# Altium integrated library NXP_60_26022015.IntLib: 1306 symbols (part 15 of 28)
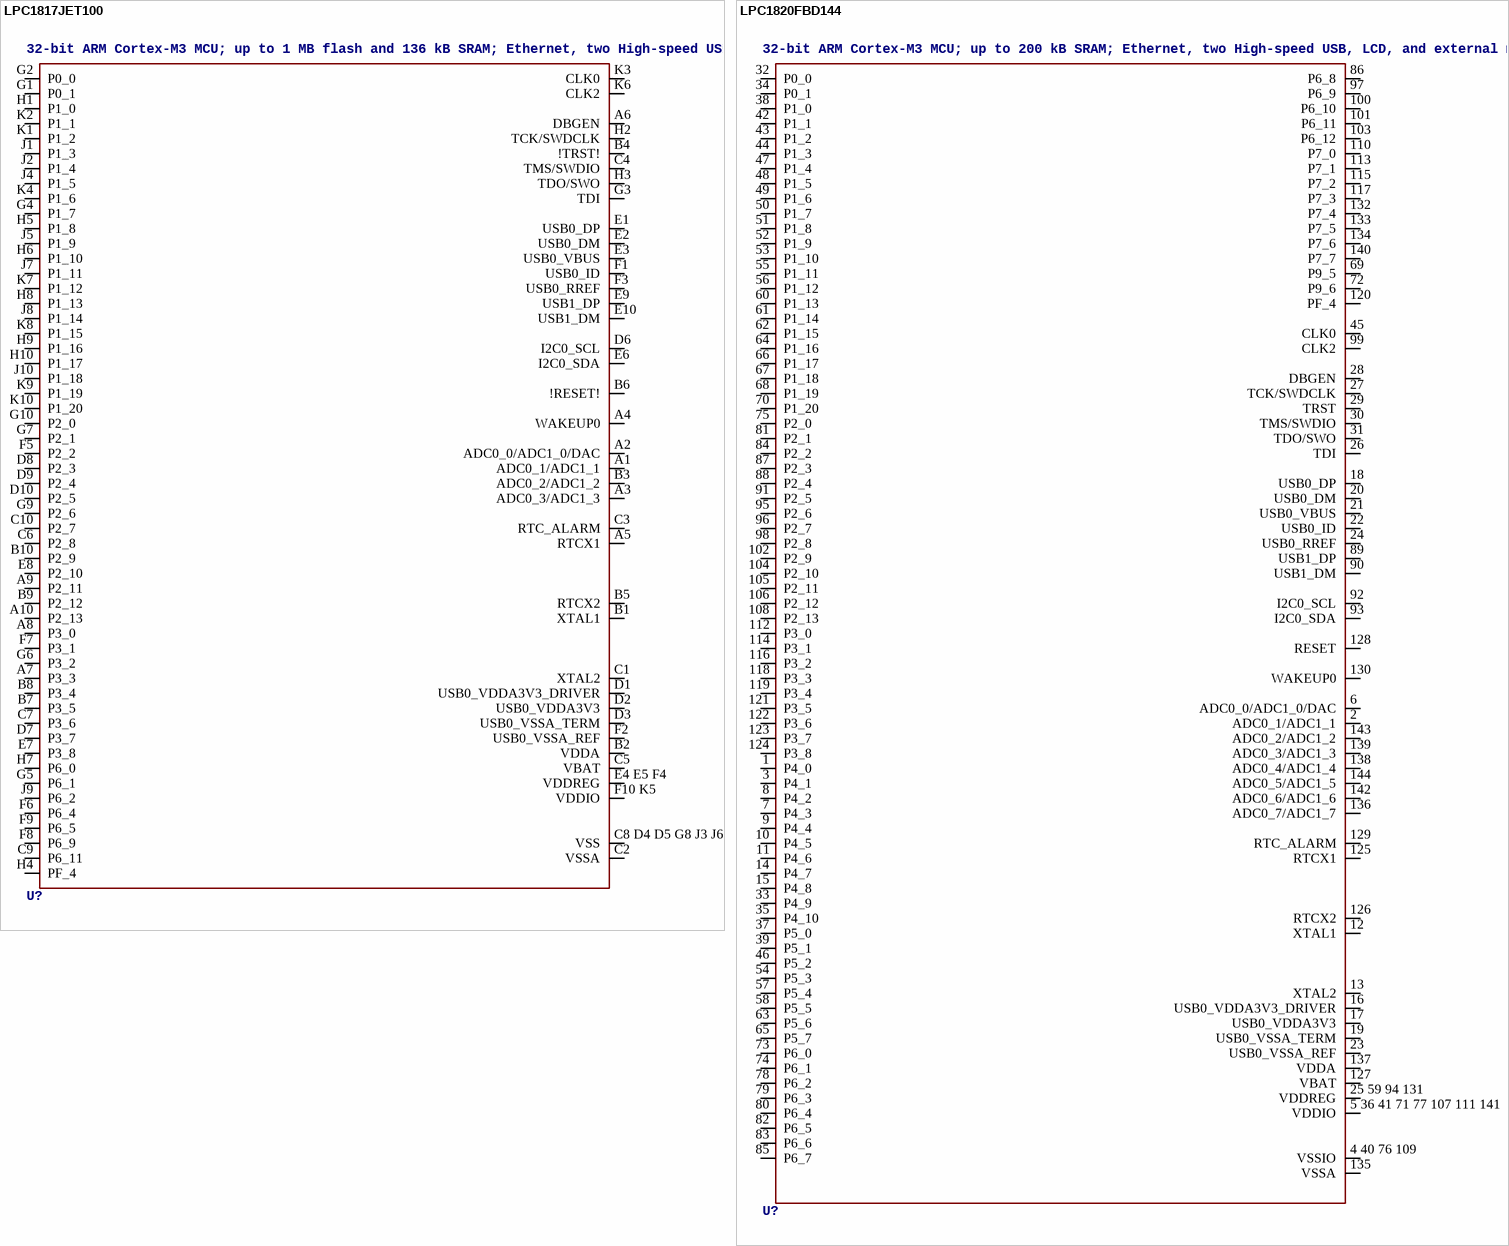
[diagram p199: symbols LPC1817JET100 to LPC1820FBD144]

## LPC1817JET100
designator U?, comment 32-bit ARM Cortex-M3 MCU; up to 1 MB flash and 136 kB SRAM; Ethernet, two High-speed USB, LCD, EMC The LPC185x/3x/2x/1x are ARM Cortex-M3 based microcontrollers for embedded applications. The ARM Cortex-M3 is a next generation core that offers system enhancements such as low power consumption, enhanced debug features, and a high level of support block integration. The LPC185x/3x/2x/1x operate at CPU frequencies of up to 180 MHz. The ARM Cortex-M3 CPU incorporates a 3-stage pipeline and uses a Harvard architecture with separate local instruction and data buses as well as a third bus for peripherals. The ARM Cortex-M3 CPU also includes an internal prefetch unit that supports speculative branching. The LPC185x/3x/2x/1x include up to 1 MB of flash and 136 kB of on-chip SRAM, 16 kB of EEPROM memory, a quad SPI Flash Interface (SPIFI), a State Configurable Timer (SCT) subsystem, two High-speed USB controllers, Ethernet, LCD, an external memory controller, and multiple digital and analog peripherals.    AAL Eindhoven MK
ADC: 4; ETHERNET: yes; FLASH: 1MB; GPIO: 49; LCD: no; SRAM: 136kB; TEMPERATURE_RANGE: -40 °C to +105 °C; PWM: no; QEI: no; USB0: No; USB1: No
footprint SOT926-1
pins: A1 ADC0_1/ADC1_1, A2 ADC0_0/ADC1_0/DAC, A3 ADC0_3/ADC1_3, A4 WAKEUP0, A5 RTCX1, A6 DBGEN, A7 P3_3, A8 P3_0, A9 P2_11, A10 P2_13, B1 XTAL1, B2 VDDA, B3 ADC0_2/ADC1_2, B4 !TRST!, B5 RTCX2, B6 !RESET!, B7 P3_5, B8 P3_4, B9 P2_12, B10 P2_9, C1 XTAL2, C2 VSSA, C3 RTC_ALARM, C4 TMS/SWDIO, C5 VBAT, C6 P2_8, C7 P3_6, C8 D4 D5 G8 J3 J6 VSS, C9 P6_11, C10 P2_7, D1 USB0_VDDA3V3_DRIVER, D2 USB0_VDDA3V3, D3 USB0_VSSA_TERM, D6 I2C0_SCL, D7 P3_7, D8 P2_3, D9 P2_4, D10 P2_5, E1 USB0_DP, E2 USB0_DM, E3 USB0_VBUS, E4 E5 F4 VDDREG, E6 I2C0_SDA, E7 P3_8, E8 P2_10, E9 USB1_DP, E10 USB1_DM, F1 USB0_ID, F2 USB0_VSSA_REF, F3 USB0_RREF, F5 P2_2, F6 P6_4, F7 P3_1, F8 P6_9, F9 P6_5, F10 K5 VDDIO, G1 P0_1, G2 P0_0, G3 TDI, G4 P1_7, G5 P6_1, G6 P3_2, G7 P2_1, G9 P2_6, G10 P2_0, H1 P1_0, H2 TCK/SWDCLK, H3 TDO/SWO, H4 PF_4, H5 P1_8, H6 P1_10, H7 P6_0, H8 P1_13, H9 P1_16, H10 P1_17, J1 P1_3, J2 P1_4, J4 P1_5, J5 P1_9, J7 P1_11, J8 P1_14, J9 P6_2, J10 P1_18, K1 P1_2, K2 P1_1, K3 CLK0, K4 P1_6, K6 CLK2, K7 P1_12, K8 P1_15, K9 P1_19, K10 P1_20

## LPC1820FBD144
designator U?, comment 32-bit ARM Cortex-M3 MCU; up to 200 kB SRAM; Ethernet, two High-speed USB, LCD, and external memory controller The LPC1850/30/20/10 are ARM Cortex-M3 based microcontrollers for embedded applications. The ARM Cortex-M3 is a next generation core that offers system enhancements such as low power consumption, enhanced debug features, and a high level of support block integration. The LPC1850/30/20/10 operate at CPU frequencies of up to 180 MHz. The ARM Cortex-M3 CPU incorporates a 3-stage pipeline and uses a Harvard architecture with separate local instruction and data buses as well as a third bus for peripherals. The ARM Cortex-M3 CPU also includes an internal prefetch unit that supports speculative branching. The LPC1850/30/20/10 include up to 200 kB of on-chip SRAM, a quad SPI Flash Interface (SPIFI), a State Configurable Timer (SCT) subsystem, two High-speed USB controllers, Ethernet, LCD, an external memory controller, and multiple digital and analog peripherals.    AAL Eindhoven MK
ADC: 8; ETHERNET: no; GPIO: 83; PWM: yes; SRAM: 168kB; USB0: Host/OTG; LCD: no; QEI: no; USB1: No
footprint SOT486-1
pins: 1 P4_0, 2 ADC0_1/ADC1_1, 3 P4_1, 4 40 76 109 VSSIO, 5 36 41 71 77 107 111 141 VDDIO, 6 ADC0_0/ADC1_0/DAC, 7 P4_3, 8 P4_2, 9 P4_4, 10 P4_5, 11 P4_6, 12 XTAL1, 13 XTAL2, 14 P4_7, 15 P4_8, 16 USB0_VDDA3V3_DRIVER, 17 USB0_VDDA3V3, 18 USB0_DP, 19 USB0_VSSA_TERM, 20 USB0_DM, 21 USB0_VBUS, 22 USB0_ID, 23 USB0_VSSA_REF, 24 USB0_RREF, 25 59 94 131 VDDREG, 26 TDI, 27 TCK/SWDCLK, 28 DBGEN, 29 TRST, 30 TMS/SWDIO, 31 TDO/SWO, 32 P0_0, 33 P4_9, 34 P0_1, 35 P4_10, 37 P5_0, 38 P1_0, 39 P5_1, 42 P1_1, 43 P1_2, 44 P1_3, 45 CLK0, 46 P5_2, 47 P1_4, 48 P1_5, 49 P1_6, 50 P1_7, 51 P1_8, 52 P1_9, 53 P1_10, 54 P5_3, 55 P1_11, 56 P1_12, 57 P5_4, 58 P5_5, 60 P1_13, 61 P1_14, 62 P1_15, 63 P5_6, 64 P1_16, 65 P5_7, 66 P1_17, 67 P1_18, 68 P1_19, 69 P9_5, 70 P1_20, 72 P9_6, 73 P6_0, 74 P6_1, 75 P2_0, 78 P6_2, 79 P6_3, 80 P6_4, 81 P2_1, 82 P6_5, 83 P6_6, 84 P2_2, 85 P6_7, 86 P6_8, 87 P2_3, 88 P2_4, 89 USB1_DP, 90 USB1_DM, 91 P2_5, 92 I2C0_SCL, 93 I2C0_SDA, 95 P2_6, 96 P2_7, 97 P6_9, 98 P2_8, 99 CLK2, 100 P6_10, 101 P6_11, 102 P2_9, 103 P6_12, 104 P2_10, 105 P2_11, 106 P2_12, 108 P2_13, 110 P7_0, 112 P3_0, 113 P7_1, 114 P3_1, 115 P7_2, 116 P3_2, 117 P7_3, 118 P3_3, 119 P3_4, 120 PF_4, 121 P3_5, 122 P3_6, 123 P3_7, 124 P3_8, 125 RTCX1, 126 RTCX2, 127 VBAT, 128 RESET, 129 RTC_ALARM, 130 WAKEUP0, 132 P7_4, 133 P7_5, 134 P7_6, 135 VSSA, 136 ADC0_7/ADC1_7, 137 VDDA, 138 ADC0_4/ADC1_4, 139 ADC0_3/ADC1_3, 140 P7_7, 142 ADC0_6/ADC1_6, 143 ADC0_2/ADC1_2, 144 ADC0_5/ADC1_5

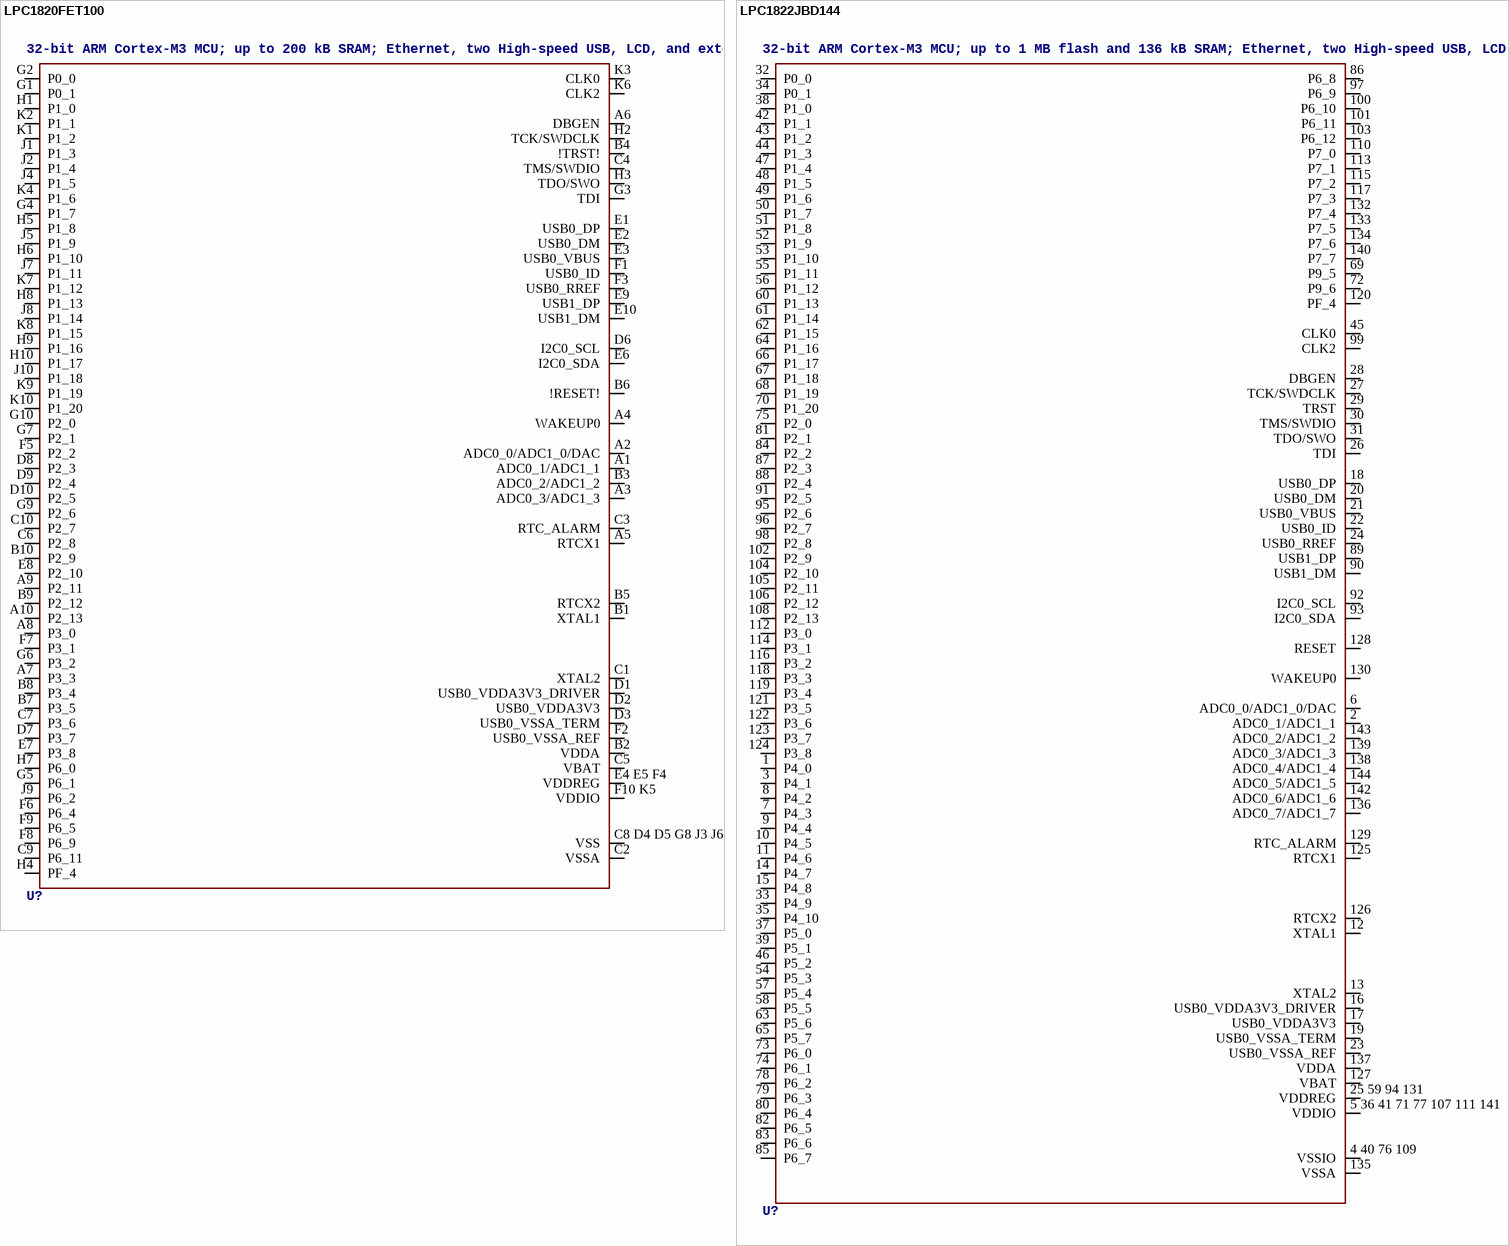
[diagram p91: symbols LPC1820FET100 to LPC1822JBD144]

## LPC1820FET100
designator U?, comment 32-bit ARM Cortex-M3 MCU; up to 200 kB SRAM; Ethernet, two High-speed USB, LCD, and external memory controller The LPC1850/30/20/10 are ARM Cortex-M3 based microcontrollers for embedded applications. The ARM Cortex-M3 is a next generation core that offers system enhancements such as low power consumption, enhanced debug features, and a high level of support block integration. The LPC1850/30/20/10 operate at CPU frequencies of up to 180 MHz. The ARM Cortex-M3 CPU incorporates a 3-stage pipeline and uses a Harvard architecture with separate local instruction and data buses as well as a third bus for peripherals. The ARM Cortex-M3 CPU also includes an internal prefetch unit that supports speculative branching. The LPC1850/30/20/10 include up to 200 kB of on-chip SRAM, a quad SPI Flash Interface (SPIFI), a State Configurable Timer (SCT) subsystem, two High-speed USB controllers, Ethernet, LCD, an external memory controller, and multiple digital and analog peripherals.    AAL Eindhoven MK
ADC: 4; ETHERNET: no; GPIO: 49; SRAM: 168kB; USB0: Host/OTG; LCD: no; PWM: no; QEI: no; USB1: No
footprint SOT926-1
pins: A1 ADC0_1/ADC1_1, A2 ADC0_0/ADC1_0/DAC, A3 ADC0_3/ADC1_3, A4 WAKEUP0, A5 RTCX1, A6 DBGEN, A7 P3_3, A8 P3_0, A9 P2_11, A10 P2_13, B1 XTAL1, B2 VDDA, B3 ADC0_2/ADC1_2, B4 !TRST!, B5 RTCX2, B6 !RESET!, B7 P3_5, B8 P3_4, B9 P2_12, B10 P2_9, C1 XTAL2, C2 VSSA, C3 RTC_ALARM, C4 TMS/SWDIO, C5 VBAT, C6 P2_8, C7 P3_6, C8 D4 D5 G8 J3 J6 VSS, C9 P6_11, C10 P2_7, D1 USB0_VDDA3V3_DRIVER, D2 USB0_VDDA3V3, D3 USB0_VSSA_TERM, D6 I2C0_SCL, D7 P3_7, D8 P2_3, D9 P2_4, D10 P2_5, E1 USB0_DP, E2 USB0_DM, E3 USB0_VBUS, E4 E5 F4 VDDREG, E6 I2C0_SDA, E7 P3_8, E8 P2_10, E9 USB1_DP, E10 USB1_DM, F1 USB0_ID, F2 USB0_VSSA_REF, F3 USB0_RREF, F5 P2_2, F6 P6_4, F7 P3_1, F8 P6_9, F9 P6_5, F10 K5 VDDIO, G1 P0_1, G2 P0_0, G3 TDI, G4 P1_7, G5 P6_1, G6 P3_2, G7 P2_1, G9 P2_6, G10 P2_0, H1 P1_0, H2 TCK/SWDCLK, H3 TDO/SWO, H4 PF_4, H5 P1_8, H6 P1_10, H7 P6_0, H8 P1_13, H9 P1_16, H10 P1_17, J1 P1_3, J2 P1_4, J4 P1_5, J5 P1_9, J7 P1_11, J8 P1_14, J9 P6_2, J10 P1_18, K1 P1_2, K2 P1_1, K3 CLK0, K4 P1_6, K6 CLK2, K7 P1_12, K8 P1_15, K9 P1_19, K10 P1_20

## LPC1822JBD144
designator U?, comment 32-bit ARM Cortex-M3 MCU; up to 1 MB flash and 136 kB SRAM; Ethernet, two High-speed USB, LCD, EMC The LPC185x/3x/2x/1x are ARM Cortex-M3 based microcontrollers for embedded applications. The ARM Cortex-M3 is a next generation core that offers system enhancements such as low power consumption, enhanced debug features, and a high level of support block integration. The LPC185x/3x/2x/1x operate at CPU frequencies of up to 180 MHz. The ARM Cortex-M3 CPU incorporates a 3-stage pipeline and uses a Harvard architecture with separate local instruction and data buses as well as a third bus for peripherals. The ARM Cortex-M3 CPU also includes an internal prefetch unit that supports speculative branching. The LPC185x/3x/2x/1x include up to 1 MB of flash and 136 kB of on-chip SRAM, 16 kB of EEPROM memory, a quad SPI Flash Interface (SPIFI), a State Configurable Timer (SCT) subsystem, two High-speed USB controllers, Ethernet, LCD, an external memory controller, and multiple digital and analog peripherals.    AAL Eindhoven MK
ADC: 8; ETHERNET: no; FLASH: 512kB (1 bank); GPIO: 83; PWM: yes; SRAM: 104kB; TEMPERATURE_RANGE: -40 °C to +105 °C; USB0: Host/OTG; LCD: no; QEI: no; USB1: No
footprint SOT486-1
pins: 1 P4_0, 2 ADC0_1/ADC1_1, 3 P4_1, 4 40 76 109 VSSIO, 5 36 41 71 77 107 111 141 VDDIO, 6 ADC0_0/ADC1_0/DAC, 7 P4_3, 8 P4_2, 9 P4_4, 10 P4_5, 11 P4_6, 12 XTAL1, 13 XTAL2, 14 P4_7, 15 P4_8, 16 USB0_VDDA3V3_DRIVER, 17 USB0_VDDA3V3, 18 USB0_DP, 19 USB0_VSSA_TERM, 20 USB0_DM, 21 USB0_VBUS, 22 USB0_ID, 23 USB0_VSSA_REF, 24 USB0_RREF, 25 59 94 131 VDDREG, 26 TDI, 27 TCK/SWDCLK, 28 DBGEN, 29 TRST, 30 TMS/SWDIO, 31 TDO/SWO, 32 P0_0, 33 P4_9, 34 P0_1, 35 P4_10, 37 P5_0, 38 P1_0, 39 P5_1, 42 P1_1, 43 P1_2, 44 P1_3, 45 CLK0, 46 P5_2, 47 P1_4, 48 P1_5, 49 P1_6, 50 P1_7, 51 P1_8, 52 P1_9, 53 P1_10, 54 P5_3, 55 P1_11, 56 P1_12, 57 P5_4, 58 P5_5, 60 P1_13, 61 P1_14, 62 P1_15, 63 P5_6, 64 P1_16, 65 P5_7, 66 P1_17, 67 P1_18, 68 P1_19, 69 P9_5, 70 P1_20, 72 P9_6, 73 P6_0, 74 P6_1, 75 P2_0, 78 P6_2, 79 P6_3, 80 P6_4, 81 P2_1, 82 P6_5, 83 P6_6, 84 P2_2, 85 P6_7, 86 P6_8, 87 P2_3, 88 P2_4, 89 USB1_DP, 90 USB1_DM, 91 P2_5, 92 I2C0_SCL, 93 I2C0_SDA, 95 P2_6, 96 P2_7, 97 P6_9, 98 P2_8, 99 CLK2, 100 P6_10, 101 P6_11, 102 P2_9, 103 P6_12, 104 P2_10, 105 P2_11, 106 P2_12, 108 P2_13, 110 P7_0, 112 P3_0, 113 P7_1, 114 P3_1, 115 P7_2, 116 P3_2, 117 P7_3, 118 P3_3, 119 P3_4, 120 PF_4, 121 P3_5, 122 P3_6, 123 P3_7, 124 P3_8, 125 RTCX1, 126 RTCX2, 127 VBAT, 128 RESET, 129 RTC_ALARM, 130 WAKEUP0, 132 P7_4, 133 P7_5, 134 P7_6, 135 VSSA, 136 ADC0_7/ADC1_7, 137 VDDA, 138 ADC0_4/ADC1_4, 139 ADC0_3/ADC1_3, 140 P7_7, 142 ADC0_6/ADC1_6, 143 ADC0_2/ADC1_2, 144 ADC0_5/ADC1_5

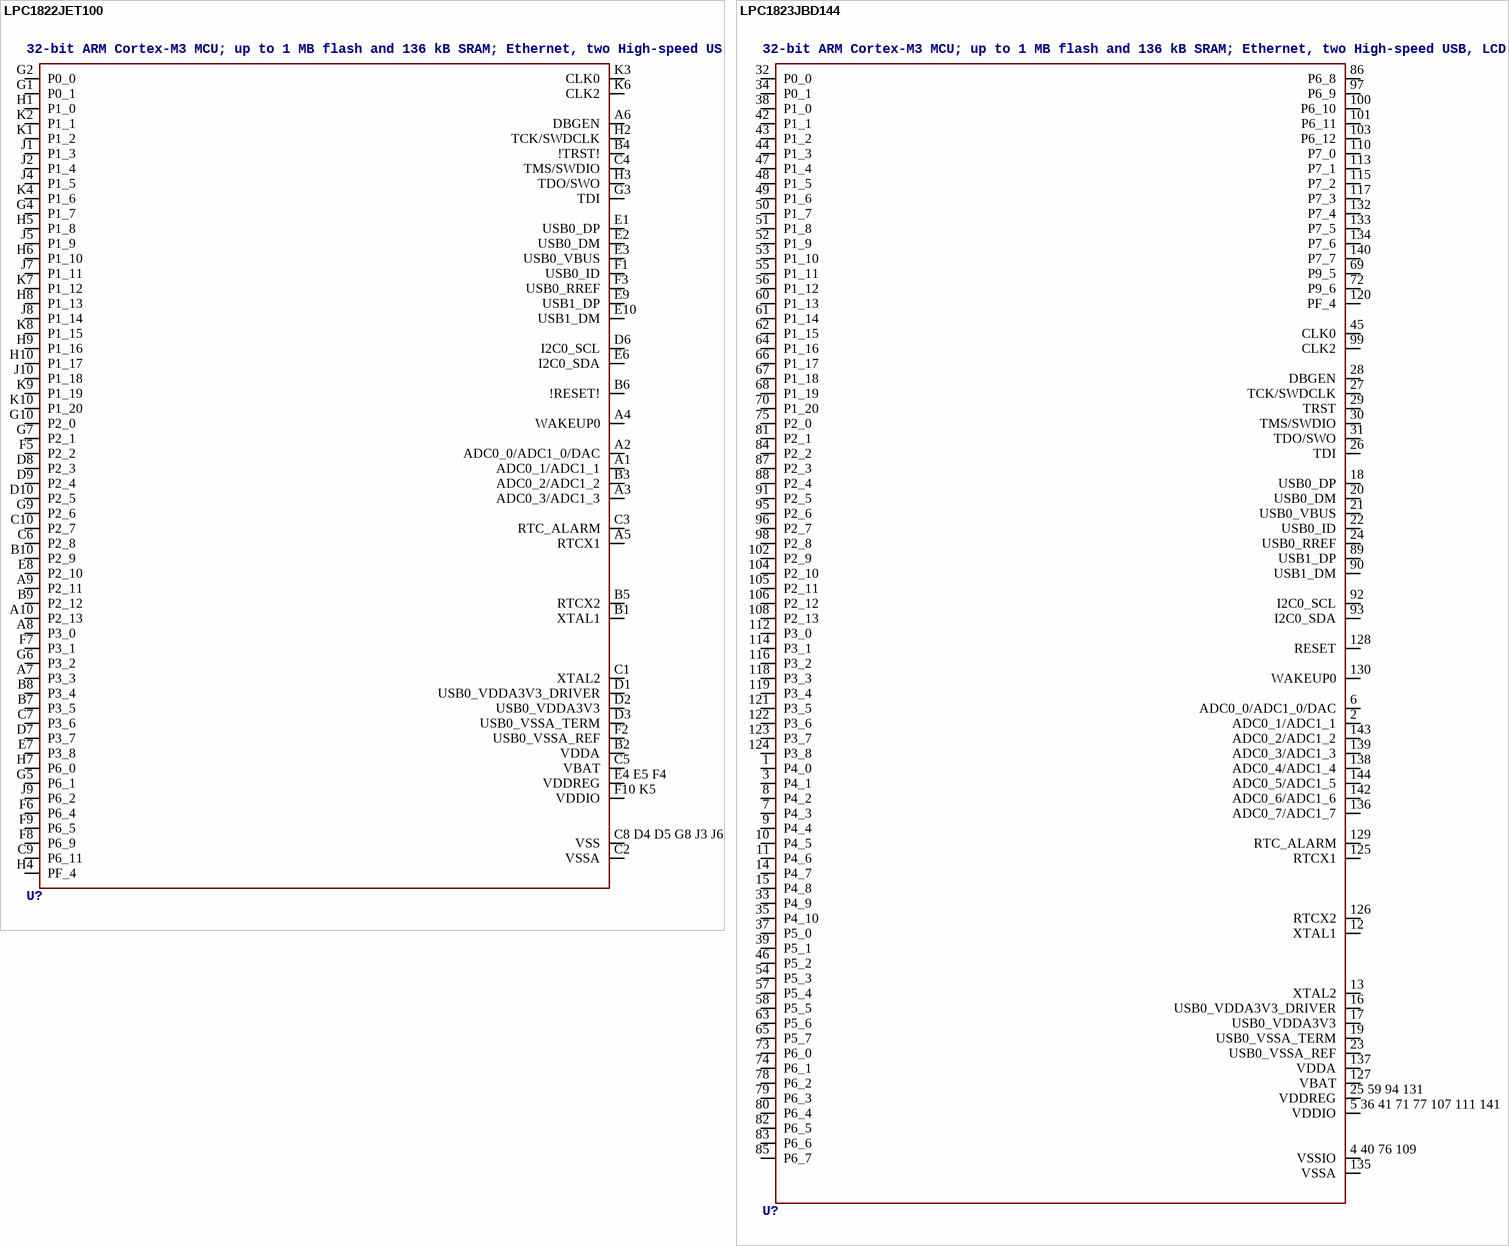
[diagram p92: symbols LPC1822JET100 to LPC1823JBD144]

## LPC1822JET100
designator U?, comment 32-bit ARM Cortex-M3 MCU; up to 1 MB flash and 136 kB SRAM; Ethernet, two High-speed USB, LCD, EMC The LPC185x/3x/2x/1x are ARM Cortex-M3 based microcontrollers for embedded applications. The ARM Cortex-M3 is a next generation core that offers system enhancements such as low power consumption, enhanced debug features, and a high level of support block integration. The LPC185x/3x/2x/1x operate at CPU frequencies of up to 180 MHz. The ARM Cortex-M3 CPU incorporates a 3-stage pipeline and uses a Harvard architecture with separate local instruction and data buses as well as a third bus for peripherals. The ARM Cortex-M3 CPU also includes an internal prefetch unit that supports speculative branching. The LPC185x/3x/2x/1x include up to 1 MB of flash and 136 kB of on-chip SRAM, 16 kB of EEPROM memory, a quad SPI Flash Interface (SPIFI), a State Configurable Timer (SCT) subsystem, two High-speed USB controllers, Ethernet, LCD, an external memory controller, and multiple digital and analog peripherals.    AAL Eindhoven MK
ADC: 4; ETHERNET: yes; FLASH: 512kB (1 bank); GPIO: 49; LCD: no; SRAM: 104kB; TEMPERATURE_RANGE: -40 °C to +105 °C; USB0: Host/OTG; PWM: no; QEI: no; USB1: No
footprint SOT926-1
pins: A1 ADC0_1/ADC1_1, A2 ADC0_0/ADC1_0/DAC, A3 ADC0_3/ADC1_3, A4 WAKEUP0, A5 RTCX1, A6 DBGEN, A7 P3_3, A8 P3_0, A9 P2_11, A10 P2_13, B1 XTAL1, B2 VDDA, B3 ADC0_2/ADC1_2, B4 !TRST!, B5 RTCX2, B6 !RESET!, B7 P3_5, B8 P3_4, B9 P2_12, B10 P2_9, C1 XTAL2, C2 VSSA, C3 RTC_ALARM, C4 TMS/SWDIO, C5 VBAT, C6 P2_8, C7 P3_6, C8 D4 D5 G8 J3 J6 VSS, C9 P6_11, C10 P2_7, D1 USB0_VDDA3V3_DRIVER, D2 USB0_VDDA3V3, D3 USB0_VSSA_TERM, D6 I2C0_SCL, D7 P3_7, D8 P2_3, D9 P2_4, D10 P2_5, E1 USB0_DP, E2 USB0_DM, E3 USB0_VBUS, E4 E5 F4 VDDREG, E6 I2C0_SDA, E7 P3_8, E8 P2_10, E9 USB1_DP, E10 USB1_DM, F1 USB0_ID, F2 USB0_VSSA_REF, F3 USB0_RREF, F5 P2_2, F6 P6_4, F7 P3_1, F8 P6_9, F9 P6_5, F10 K5 VDDIO, G1 P0_1, G2 P0_0, G3 TDI, G4 P1_7, G5 P6_1, G6 P3_2, G7 P2_1, G9 P2_6, G10 P2_0, H1 P1_0, H2 TCK/SWDCLK, H3 TDO/SWO, H4 PF_4, H5 P1_8, H6 P1_10, H7 P6_0, H8 P1_13, H9 P1_16, H10 P1_17, J1 P1_3, J2 P1_4, J4 P1_5, J5 P1_9, J7 P1_11, J8 P1_14, J9 P6_2, J10 P1_18, K1 P1_2, K2 P1_1, K3 CLK0, K4 P1_6, K6 CLK2, K7 P1_12, K8 P1_15, K9 P1_19, K10 P1_20

## LPC1823JBD144
designator U?, comment 32-bit ARM Cortex-M3 MCU; up to 1 MB flash and 136 kB SRAM; Ethernet, two High-speed USB, LCD, EMC The LPC185x/3x/2x/1x are ARM Cortex-M3 based microcontrollers for embedded applications. The ARM Cortex-M3 is a next generation core that offers system enhancements such as low power consumption, enhanced debug features, and a high level of support block integration. The LPC185x/3x/2x/1x operate at CPU frequencies of up to 180 MHz. The ARM Cortex-M3 CPU incorporates a 3-stage pipeline and uses a Harvard architecture with separate local instruction and data buses as well as a third bus for peripherals. The ARM Cortex-M3 CPU also includes an internal prefetch unit that supports speculative branching. The LPC185x/3x/2x/1x include up to 1 MB of flash and 136 kB of on-chip SRAM, 16 kB of EEPROM memory, a quad SPI Flash Interface (SPIFI), a State Configurable Timer (SCT) subsystem, two High-speed USB controllers, Ethernet, LCD, an external memory controller, and multiple digital and analog peripherals.    AAL Eindhoven MK
ADC: 8; ETHERNET: no; FLASH: 512kB; GPIO: 83; PWM: yes; SRAM: 104kB; TEMPERATURE_RANGE: -40 °C to +105 °C; USB0: Host/OTG; LCD: no; QEI: no; USB1: No
footprint SOT486-1
pins: 1 P4_0, 2 ADC0_1/ADC1_1, 3 P4_1, 4 40 76 109 VSSIO, 5 36 41 71 77 107 111 141 VDDIO, 6 ADC0_0/ADC1_0/DAC, 7 P4_3, 8 P4_2, 9 P4_4, 10 P4_5, 11 P4_6, 12 XTAL1, 13 XTAL2, 14 P4_7, 15 P4_8, 16 USB0_VDDA3V3_DRIVER, 17 USB0_VDDA3V3, 18 USB0_DP, 19 USB0_VSSA_TERM, 20 USB0_DM, 21 USB0_VBUS, 22 USB0_ID, 23 USB0_VSSA_REF, 24 USB0_RREF, 25 59 94 131 VDDREG, 26 TDI, 27 TCK/SWDCLK, 28 DBGEN, 29 TRST, 30 TMS/SWDIO, 31 TDO/SWO, 32 P0_0, 33 P4_9, 34 P0_1, 35 P4_10, 37 P5_0, 38 P1_0, 39 P5_1, 42 P1_1, 43 P1_2, 44 P1_3, 45 CLK0, 46 P5_2, 47 P1_4, 48 P1_5, 49 P1_6, 50 P1_7, 51 P1_8, 52 P1_9, 53 P1_10, 54 P5_3, 55 P1_11, 56 P1_12, 57 P5_4, 58 P5_5, 60 P1_13, 61 P1_14, 62 P1_15, 63 P5_6, 64 P1_16, 65 P5_7, 66 P1_17, 67 P1_18, 68 P1_19, 69 P9_5, 70 P1_20, 72 P9_6, 73 P6_0, 74 P6_1, 75 P2_0, 78 P6_2, 79 P6_3, 80 P6_4, 81 P2_1, 82 P6_5, 83 P6_6, 84 P2_2, 85 P6_7, 86 P6_8, 87 P2_3, 88 P2_4, 89 USB1_DP, 90 USB1_DM, 91 P2_5, 92 I2C0_SCL, 93 I2C0_SDA, 95 P2_6, 96 P2_7, 97 P6_9, 98 P2_8, 99 CLK2, 100 P6_10, 101 P6_11, 102 P2_9, 103 P6_12, 104 P2_10, 105 P2_11, 106 P2_12, 108 P2_13, 110 P7_0, 112 P3_0, 113 P7_1, 114 P3_1, 115 P7_2, 116 P3_2, 117 P7_3, 118 P3_3, 119 P3_4, 120 PF_4, 121 P3_5, 122 P3_6, 123 P3_7, 124 P3_8, 125 RTCX1, 126 RTCX2, 127 VBAT, 128 RESET, 129 RTC_ALARM, 130 WAKEUP0, 132 P7_4, 133 P7_5, 134 P7_6, 135 VSSA, 136 ADC0_7/ADC1_7, 137 VDDA, 138 ADC0_4/ADC1_4, 139 ADC0_3/ADC1_3, 140 P7_7, 142 ADC0_6/ADC1_6, 143 ADC0_2/ADC1_2, 144 ADC0_5/ADC1_5

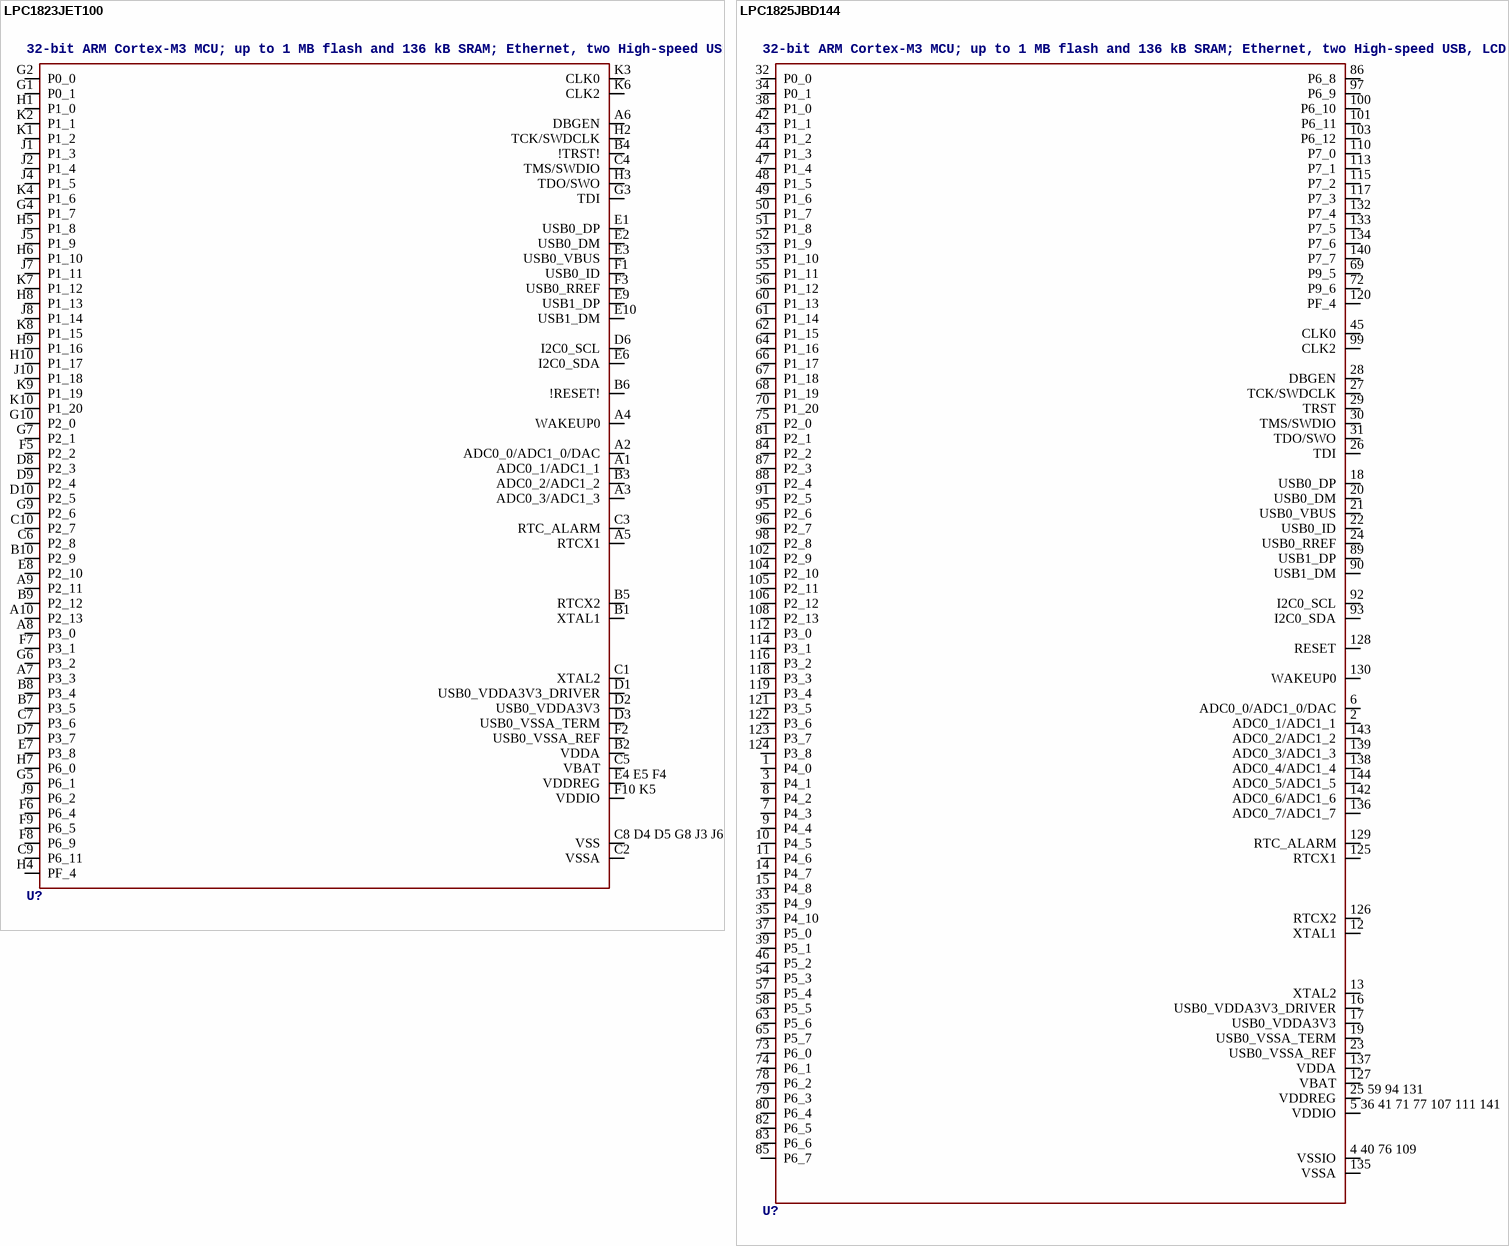
[diagram p93: symbols LPC1823JET100 to LPC1825JBD144]

## LPC1823JET100
designator U?, comment 32-bit ARM Cortex-M3 MCU; up to 1 MB flash and 136 kB SRAM; Ethernet, two High-speed USB, LCD, EMC The LPC185x/3x/2x/1x are ARM Cortex-M3 based microcontrollers for embedded applications. The ARM Cortex-M3 is a next generation core that offers system enhancements such as low power consumption, enhanced debug features, and a high level of support block integration. The LPC185x/3x/2x/1x operate at CPU frequencies of up to 180 MHz. The ARM Cortex-M3 CPU incorporates a 3-stage pipeline and uses a Harvard architecture with separate local instruction and data buses as well as a third bus for peripherals. The ARM Cortex-M3 CPU also includes an internal prefetch unit that supports speculative branching. The LPC185x/3x/2x/1x include up to 1 MB of flash and 136 kB of on-chip SRAM, 16 kB of EEPROM memory, a quad SPI Flash Interface (SPIFI), a State Configurable Timer (SCT) subsystem, two High-speed USB controllers, Ethernet, LCD, an external memory controller, and multiple digital and analog peripherals.    AAL Eindhoven MK
ADC: 4; ETHERNET: yes; FLASH: 512kB; GPIO: 49; LCD: no; SRAM: 104kB; TEMPERATURE_RANGE: -40 °C to +105 °C; USB0: Host/OTG; PWM: no; QEI: no; USB1: No
footprint SOT926-1
pins: A1 ADC0_1/ADC1_1, A2 ADC0_0/ADC1_0/DAC, A3 ADC0_3/ADC1_3, A4 WAKEUP0, A5 RTCX1, A6 DBGEN, A7 P3_3, A8 P3_0, A9 P2_11, A10 P2_13, B1 XTAL1, B2 VDDA, B3 ADC0_2/ADC1_2, B4 !TRST!, B5 RTCX2, B6 !RESET!, B7 P3_5, B8 P3_4, B9 P2_12, B10 P2_9, C1 XTAL2, C2 VSSA, C3 RTC_ALARM, C4 TMS/SWDIO, C5 VBAT, C6 P2_8, C7 P3_6, C8 D4 D5 G8 J3 J6 VSS, C9 P6_11, C10 P2_7, D1 USB0_VDDA3V3_DRIVER, D2 USB0_VDDA3V3, D3 USB0_VSSA_TERM, D6 I2C0_SCL, D7 P3_7, D8 P2_3, D9 P2_4, D10 P2_5, E1 USB0_DP, E2 USB0_DM, E3 USB0_VBUS, E4 E5 F4 VDDREG, E6 I2C0_SDA, E7 P3_8, E8 P2_10, E9 USB1_DP, E10 USB1_DM, F1 USB0_ID, F2 USB0_VSSA_REF, F3 USB0_RREF, F5 P2_2, F6 P6_4, F7 P3_1, F8 P6_9, F9 P6_5, F10 K5 VDDIO, G1 P0_1, G2 P0_0, G3 TDI, G4 P1_7, G5 P6_1, G6 P3_2, G7 P2_1, G9 P2_6, G10 P2_0, H1 P1_0, H2 TCK/SWDCLK, H3 TDO/SWO, H4 PF_4, H5 P1_8, H6 P1_10, H7 P6_0, H8 P1_13, H9 P1_16, H10 P1_17, J1 P1_3, J2 P1_4, J4 P1_5, J5 P1_9, J7 P1_11, J8 P1_14, J9 P6_2, J10 P1_18, K1 P1_2, K2 P1_1, K3 CLK0, K4 P1_6, K6 CLK2, K7 P1_12, K8 P1_15, K9 P1_19, K10 P1_20

## LPC1825JBD144
designator U?, comment 32-bit ARM Cortex-M3 MCU; up to 1 MB flash and 136 kB SRAM; Ethernet, two High-speed USB, LCD, EMC The LPC185x/3x/2x/1x are ARM Cortex-M3 based microcontrollers for embedded applications. The ARM Cortex-M3 is a next generation core that offers system enhancements such as low power consumption, enhanced debug features, and a high level of support block integration. The LPC185x/3x/2x/1x operate at CPU frequencies of up to 180 MHz. The ARM Cortex-M3 CPU incorporates a 3-stage pipeline and uses a Harvard architecture with separate local instruction and data buses as well as a third bus for peripherals. The ARM Cortex-M3 CPU also includes an internal prefetch unit that supports speculative branching. The LPC185x/3x/2x/1x include up to 1 MB of flash and 136 kB of on-chip SRAM, 16 kB of EEPROM memory, a quad SPI Flash Interface (SPIFI), a State Configurable Timer (SCT) subsystem, two High-speed USB controllers, Ethernet, LCD, an external memory controller, and multiple digital and analog peripherals.    AAL Eindhoven MK
ADC: 8; ETHERNET: no; FLASH: 768kB; GPIO: 83; PWM: yes; SRAM: 136kB; TEMPERATURE_RANGE: -40 °C to +105 °C; USB0: Host/OTG; LCD: no; QEI: no; USB1: No
footprint SOT486-1
pins: 1 P4_0, 2 ADC0_1/ADC1_1, 3 P4_1, 4 40 76 109 VSSIO, 5 36 41 71 77 107 111 141 VDDIO, 6 ADC0_0/ADC1_0/DAC, 7 P4_3, 8 P4_2, 9 P4_4, 10 P4_5, 11 P4_6, 12 XTAL1, 13 XTAL2, 14 P4_7, 15 P4_8, 16 USB0_VDDA3V3_DRIVER, 17 USB0_VDDA3V3, 18 USB0_DP, 19 USB0_VSSA_TERM, 20 USB0_DM, 21 USB0_VBUS, 22 USB0_ID, 23 USB0_VSSA_REF, 24 USB0_RREF, 25 59 94 131 VDDREG, 26 TDI, 27 TCK/SWDCLK, 28 DBGEN, 29 TRST, 30 TMS/SWDIO, 31 TDO/SWO, 32 P0_0, 33 P4_9, 34 P0_1, 35 P4_10, 37 P5_0, 38 P1_0, 39 P5_1, 42 P1_1, 43 P1_2, 44 P1_3, 45 CLK0, 46 P5_2, 47 P1_4, 48 P1_5, 49 P1_6, 50 P1_7, 51 P1_8, 52 P1_9, 53 P1_10, 54 P5_3, 55 P1_11, 56 P1_12, 57 P5_4, 58 P5_5, 60 P1_13, 61 P1_14, 62 P1_15, 63 P5_6, 64 P1_16, 65 P5_7, 66 P1_17, 67 P1_18, 68 P1_19, 69 P9_5, 70 P1_20, 72 P9_6, 73 P6_0, 74 P6_1, 75 P2_0, 78 P6_2, 79 P6_3, 80 P6_4, 81 P2_1, 82 P6_5, 83 P6_6, 84 P2_2, 85 P6_7, 86 P6_8, 87 P2_3, 88 P2_4, 89 USB1_DP, 90 USB1_DM, 91 P2_5, 92 I2C0_SCL, 93 I2C0_SDA, 95 P2_6, 96 P2_7, 97 P6_9, 98 P2_8, 99 CLK2, 100 P6_10, 101 P6_11, 102 P2_9, 103 P6_12, 104 P2_10, 105 P2_11, 106 P2_12, 108 P2_13, 110 P7_0, 112 P3_0, 113 P7_1, 114 P3_1, 115 P7_2, 116 P3_2, 117 P7_3, 118 P3_3, 119 P3_4, 120 PF_4, 121 P3_5, 122 P3_6, 123 P3_7, 124 P3_8, 125 RTCX1, 126 RTCX2, 127 VBAT, 128 RESET, 129 RTC_ALARM, 130 WAKEUP0, 132 P7_4, 133 P7_5, 134 P7_6, 135 VSSA, 136 ADC0_7/ADC1_7, 137 VDDA, 138 ADC0_4/ADC1_4, 139 ADC0_3/ADC1_3, 140 P7_7, 142 ADC0_6/ADC1_6, 143 ADC0_2/ADC1_2, 144 ADC0_5/ADC1_5

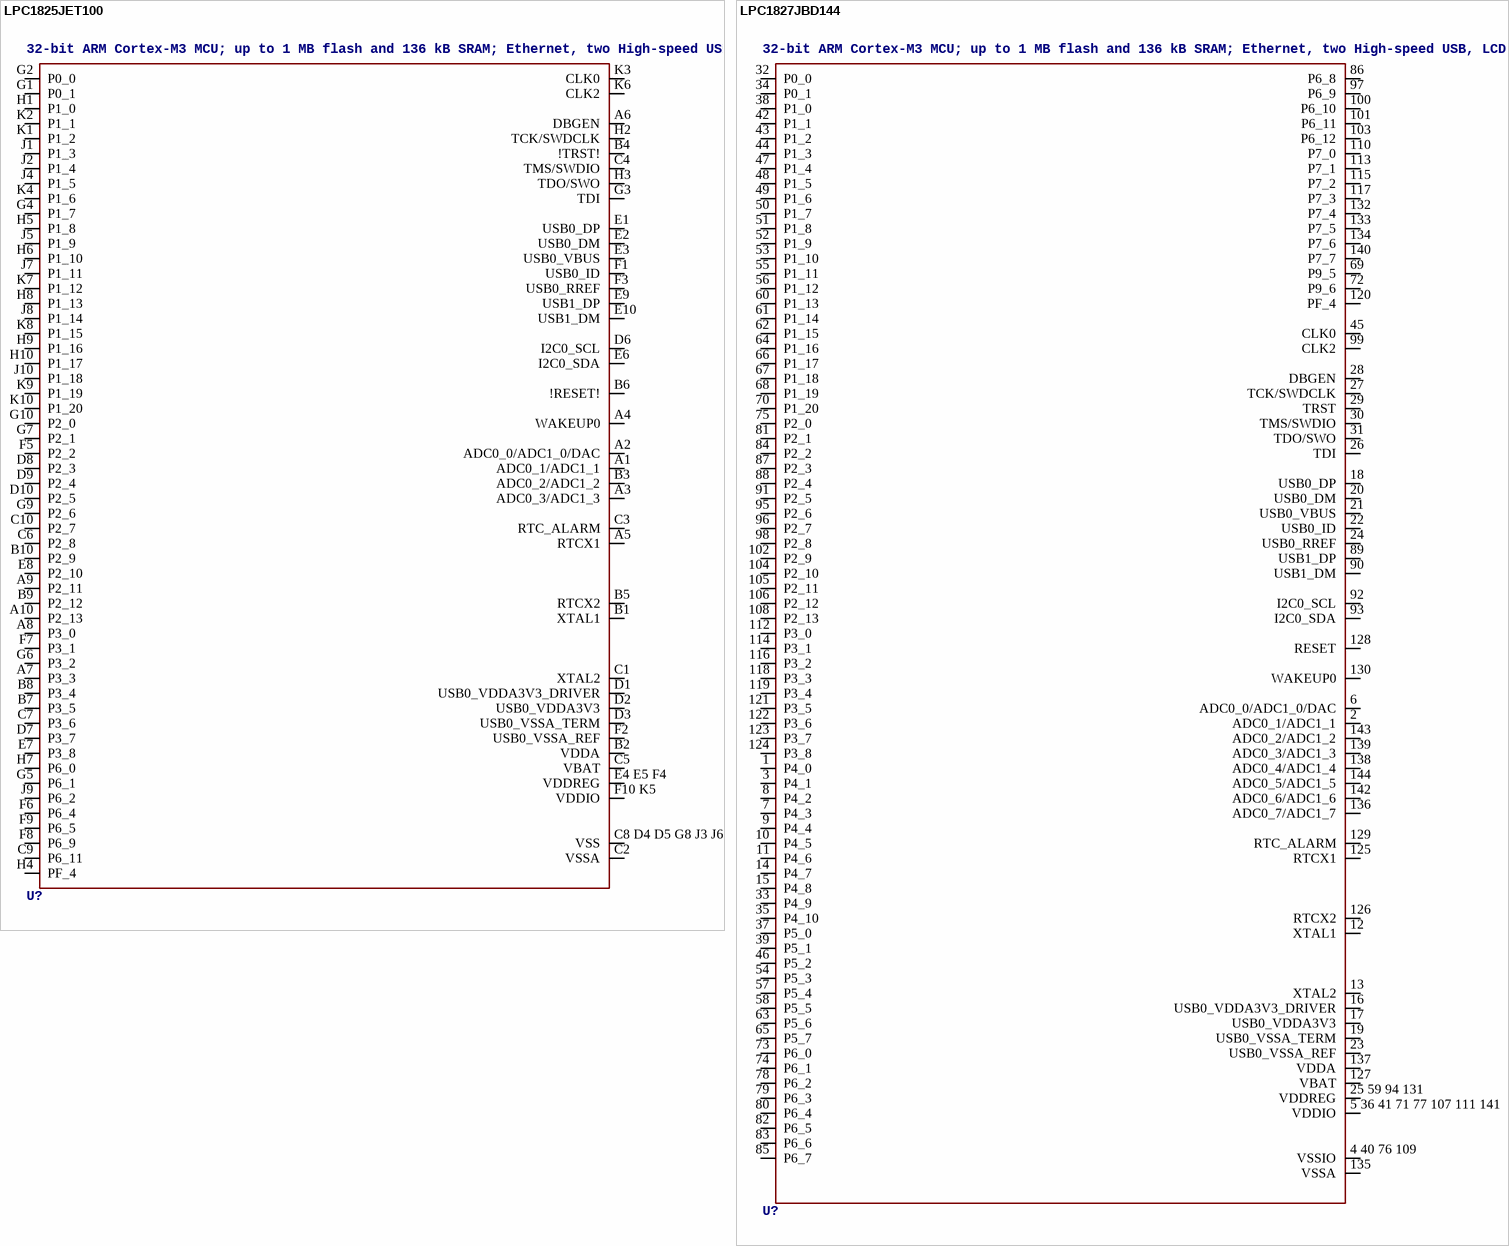
[diagram p94: symbols LPC1825JET100 to LPC1827JBD144]

## LPC1825JET100
designator U?, comment 32-bit ARM Cortex-M3 MCU; up to 1 MB flash and 136 kB SRAM; Ethernet, two High-speed USB, LCD, EMC The LPC185x/3x/2x/1x are ARM Cortex-M3 based microcontrollers for embedded applications. The ARM Cortex-M3 is a next generation core that offers system enhancements such as low power consumption, enhanced debug features, and a high level of support block integration. The LPC185x/3x/2x/1x operate at CPU frequencies of up to 180 MHz. The ARM Cortex-M3 CPU incorporates a 3-stage pipeline and uses a Harvard architecture with separate local instruction and data buses as well as a third bus for peripherals. The ARM Cortex-M3 CPU also includes an internal prefetch unit that supports speculative branching. The LPC185x/3x/2x/1x include up to 1 MB of flash and 136 kB of on-chip SRAM, 16 kB of EEPROM memory, a quad SPI Flash Interface (SPIFI), a State Configurable Timer (SCT) subsystem, two High-speed USB controllers, Ethernet, LCD, an external memory controller, and multiple digital and analog peripherals.    AAL Eindhoven MK
ADC: 4; ETHERNET: yes; FLASH: 768kB; GPIO: 49; LCD: no; SRAM: 136kB; TEMPERATURE_RANGE: -40 °C to +105 °C; USB0: Host/OTG; PWM: no; QEI: no; USB1: No
footprint SOT926-1
pins: A1 ADC0_1/ADC1_1, A2 ADC0_0/ADC1_0/DAC, A3 ADC0_3/ADC1_3, A4 WAKEUP0, A5 RTCX1, A6 DBGEN, A7 P3_3, A8 P3_0, A9 P2_11, A10 P2_13, B1 XTAL1, B2 VDDA, B3 ADC0_2/ADC1_2, B4 !TRST!, B5 RTCX2, B6 !RESET!, B7 P3_5, B8 P3_4, B9 P2_12, B10 P2_9, C1 XTAL2, C2 VSSA, C3 RTC_ALARM, C4 TMS/SWDIO, C5 VBAT, C6 P2_8, C7 P3_6, C8 D4 D5 G8 J3 J6 VSS, C9 P6_11, C10 P2_7, D1 USB0_VDDA3V3_DRIVER, D2 USB0_VDDA3V3, D3 USB0_VSSA_TERM, D6 I2C0_SCL, D7 P3_7, D8 P2_3, D9 P2_4, D10 P2_5, E1 USB0_DP, E2 USB0_DM, E3 USB0_VBUS, E4 E5 F4 VDDREG, E6 I2C0_SDA, E7 P3_8, E8 P2_10, E9 USB1_DP, E10 USB1_DM, F1 USB0_ID, F2 USB0_VSSA_REF, F3 USB0_RREF, F5 P2_2, F6 P6_4, F7 P3_1, F8 P6_9, F9 P6_5, F10 K5 VDDIO, G1 P0_1, G2 P0_0, G3 TDI, G4 P1_7, G5 P6_1, G6 P3_2, G7 P2_1, G9 P2_6, G10 P2_0, H1 P1_0, H2 TCK/SWDCLK, H3 TDO/SWO, H4 PF_4, H5 P1_8, H6 P1_10, H7 P6_0, H8 P1_13, H9 P1_16, H10 P1_17, J1 P1_3, J2 P1_4, J4 P1_5, J5 P1_9, J7 P1_11, J8 P1_14, J9 P6_2, J10 P1_18, K1 P1_2, K2 P1_1, K3 CLK0, K4 P1_6, K6 CLK2, K7 P1_12, K8 P1_15, K9 P1_19, K10 P1_20

## LPC1827JBD144
designator U?, comment 32-bit ARM Cortex-M3 MCU; up to 1 MB flash and 136 kB SRAM; Ethernet, two High-speed USB, LCD, EMC The LPC185x/3x/2x/1x are ARM Cortex-M3 based microcontrollers for embedded applications. The ARM Cortex-M3 is a next generation core that offers system enhancements such as low power consumption, enhanced debug features, and a high level of support block integration. The LPC185x/3x/2x/1x operate at CPU frequencies of up to 180 MHz. The ARM Cortex-M3 CPU incorporates a 3-stage pipeline and uses a Harvard architecture with separate local instruction and data buses as well as a third bus for peripherals. The ARM Cortex-M3 CPU also includes an internal prefetch unit that supports speculative branching. The LPC185x/3x/2x/1x include up to 1 MB of flash and 136 kB of on-chip SRAM, 16 kB of EEPROM memory, a quad SPI Flash Interface (SPIFI), a State Configurable Timer (SCT) subsystem, two High-speed USB controllers, Ethernet, LCD, an external memory controller, and multiple digital and analog peripherals.    AAL Eindhoven MK
ADC: 8; ETHERNET: no; FLASH: 1MB; GPIO: 83; PWM: yes; SRAM: 136kB; TEMPERATURE_RANGE: -40 °C to +105 °C; USB0: Host/OTG; LCD: no; QEI: no; USB1: No
footprint SOT486-1
pins: 1 P4_0, 2 ADC0_1/ADC1_1, 3 P4_1, 4 40 76 109 VSSIO, 5 36 41 71 77 107 111 141 VDDIO, 6 ADC0_0/ADC1_0/DAC, 7 P4_3, 8 P4_2, 9 P4_4, 10 P4_5, 11 P4_6, 12 XTAL1, 13 XTAL2, 14 P4_7, 15 P4_8, 16 USB0_VDDA3V3_DRIVER, 17 USB0_VDDA3V3, 18 USB0_DP, 19 USB0_VSSA_TERM, 20 USB0_DM, 21 USB0_VBUS, 22 USB0_ID, 23 USB0_VSSA_REF, 24 USB0_RREF, 25 59 94 131 VDDREG, 26 TDI, 27 TCK/SWDCLK, 28 DBGEN, 29 TRST, 30 TMS/SWDIO, 31 TDO/SWO, 32 P0_0, 33 P4_9, 34 P0_1, 35 P4_10, 37 P5_0, 38 P1_0, 39 P5_1, 42 P1_1, 43 P1_2, 44 P1_3, 45 CLK0, 46 P5_2, 47 P1_4, 48 P1_5, 49 P1_6, 50 P1_7, 51 P1_8, 52 P1_9, 53 P1_10, 54 P5_3, 55 P1_11, 56 P1_12, 57 P5_4, 58 P5_5, 60 P1_13, 61 P1_14, 62 P1_15, 63 P5_6, 64 P1_16, 65 P5_7, 66 P1_17, 67 P1_18, 68 P1_19, 69 P9_5, 70 P1_20, 72 P9_6, 73 P6_0, 74 P6_1, 75 P2_0, 78 P6_2, 79 P6_3, 80 P6_4, 81 P2_1, 82 P6_5, 83 P6_6, 84 P2_2, 85 P6_7, 86 P6_8, 87 P2_3, 88 P2_4, 89 USB1_DP, 90 USB1_DM, 91 P2_5, 92 I2C0_SCL, 93 I2C0_SDA, 95 P2_6, 96 P2_7, 97 P6_9, 98 P2_8, 99 CLK2, 100 P6_10, 101 P6_11, 102 P2_9, 103 P6_12, 104 P2_10, 105 P2_11, 106 P2_12, 108 P2_13, 110 P7_0, 112 P3_0, 113 P7_1, 114 P3_1, 115 P7_2, 116 P3_2, 117 P7_3, 118 P3_3, 119 P3_4, 120 PF_4, 121 P3_5, 122 P3_6, 123 P3_7, 124 P3_8, 125 RTCX1, 126 RTCX2, 127 VBAT, 128 RESET, 129 RTC_ALARM, 130 WAKEUP0, 132 P7_4, 133 P7_5, 134 P7_6, 135 VSSA, 136 ADC0_7/ADC1_7, 137 VDDA, 138 ADC0_4/ADC1_4, 139 ADC0_3/ADC1_3, 140 P7_7, 142 ADC0_6/ADC1_6, 143 ADC0_2/ADC1_2, 144 ADC0_5/ADC1_5

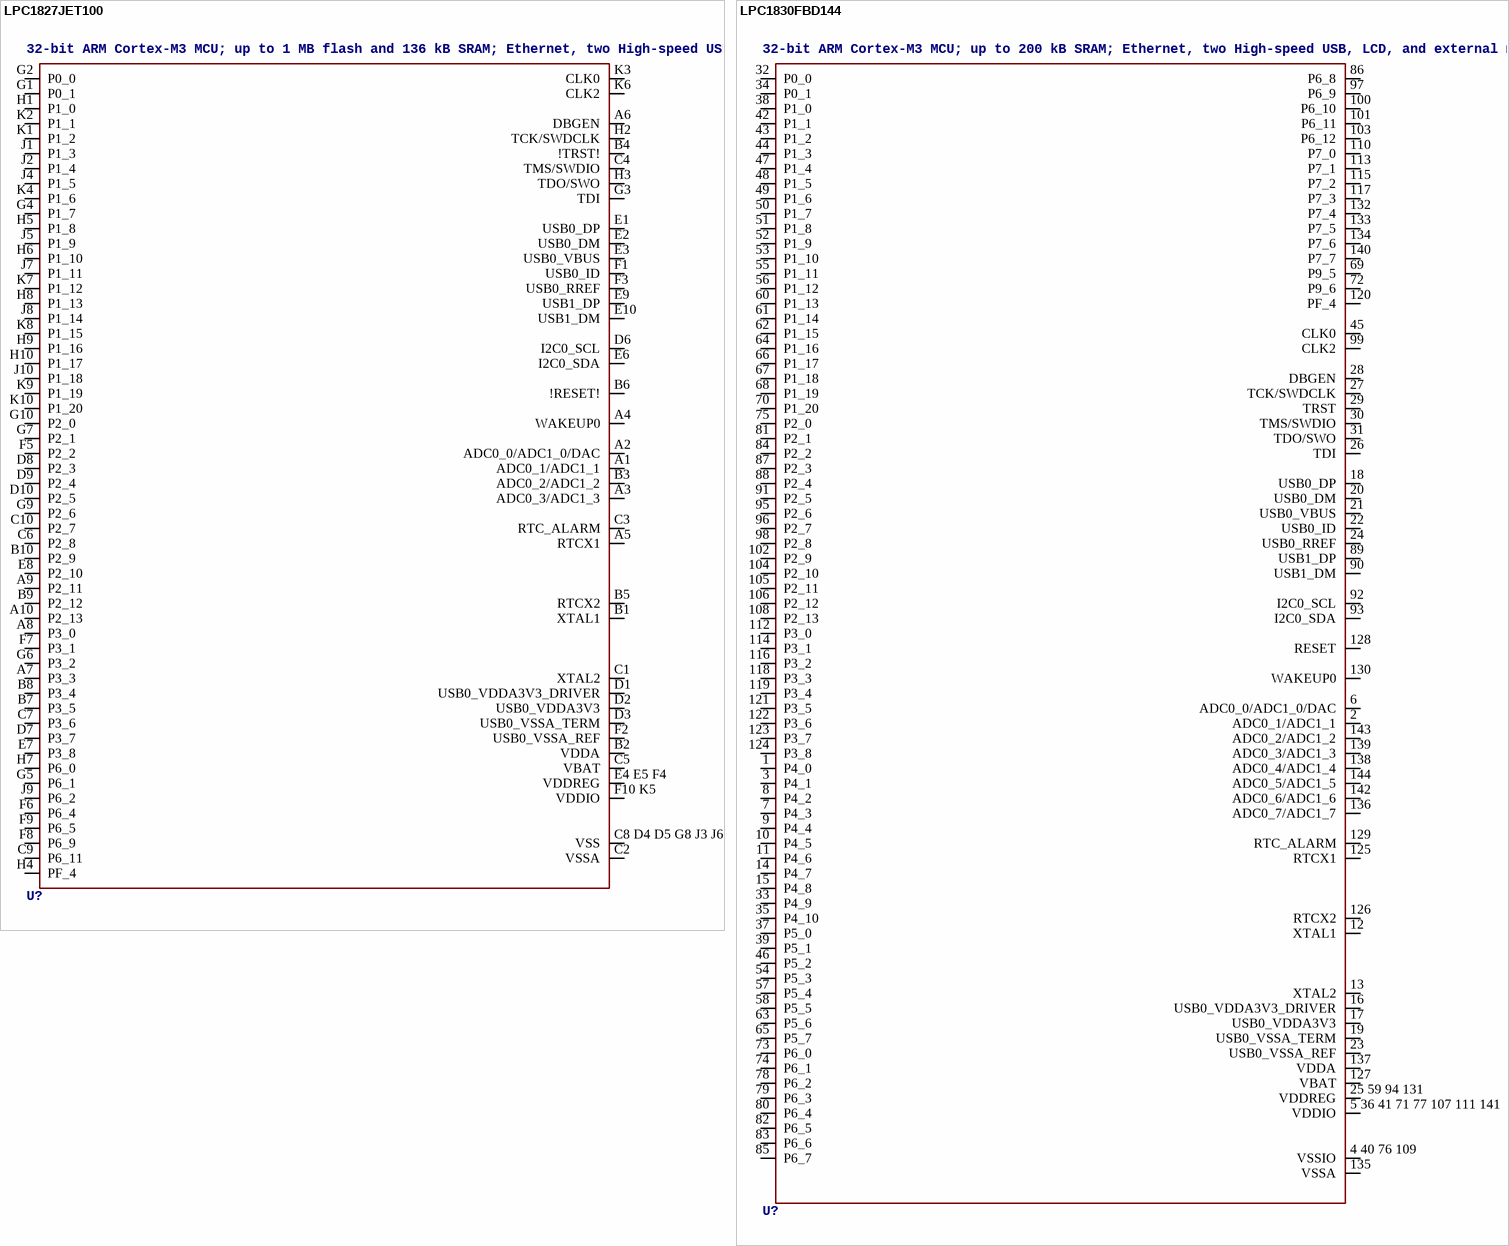
[diagram p95: symbols LPC1827JET100 to LPC1830FBD144]

## LPC1827JET100
designator U?, comment 32-bit ARM Cortex-M3 MCU; up to 1 MB flash and 136 kB SRAM; Ethernet, two High-speed USB, LCD, EMC The LPC185x/3x/2x/1x are ARM Cortex-M3 based microcontrollers for embedded applications. The ARM Cortex-M3 is a next generation core that offers system enhancements such as low power consumption, enhanced debug features, and a high level of support block integration. The LPC185x/3x/2x/1x operate at CPU frequencies of up to 180 MHz. The ARM Cortex-M3 CPU incorporates a 3-stage pipeline and uses a Harvard architecture with separate local instruction and data buses as well as a third bus for peripherals. The ARM Cortex-M3 CPU also includes an internal prefetch unit that supports speculative branching. The LPC185x/3x/2x/1x include up to 1 MB of flash and 136 kB of on-chip SRAM, 16 kB of EEPROM memory, a quad SPI Flash Interface (SPIFI), a State Configurable Timer (SCT) subsystem, two High-speed USB controllers, Ethernet, LCD, an external memory controller, and multiple digital and analog peripherals.    AAL Eindhoven MK
ADC: 4; ETHERNET: yes; FLASH: 1MB; GPIO: 49; LCD: no; SRAM: 136kB; TEMPERATURE_RANGE: -40 °C to +105 °C; USB0: Host/OTG; PWM: no; QEI: no; USB1: No
footprint SOT926-1
pins: A1 ADC0_1/ADC1_1, A2 ADC0_0/ADC1_0/DAC, A3 ADC0_3/ADC1_3, A4 WAKEUP0, A5 RTCX1, A6 DBGEN, A7 P3_3, A8 P3_0, A9 P2_11, A10 P2_13, B1 XTAL1, B2 VDDA, B3 ADC0_2/ADC1_2, B4 !TRST!, B5 RTCX2, B6 !RESET!, B7 P3_5, B8 P3_4, B9 P2_12, B10 P2_9, C1 XTAL2, C2 VSSA, C3 RTC_ALARM, C4 TMS/SWDIO, C5 VBAT, C6 P2_8, C7 P3_6, C8 D4 D5 G8 J3 J6 VSS, C9 P6_11, C10 P2_7, D1 USB0_VDDA3V3_DRIVER, D2 USB0_VDDA3V3, D3 USB0_VSSA_TERM, D6 I2C0_SCL, D7 P3_7, D8 P2_3, D9 P2_4, D10 P2_5, E1 USB0_DP, E2 USB0_DM, E3 USB0_VBUS, E4 E5 F4 VDDREG, E6 I2C0_SDA, E7 P3_8, E8 P2_10, E9 USB1_DP, E10 USB1_DM, F1 USB0_ID, F2 USB0_VSSA_REF, F3 USB0_RREF, F5 P2_2, F6 P6_4, F7 P3_1, F8 P6_9, F9 P6_5, F10 K5 VDDIO, G1 P0_1, G2 P0_0, G3 TDI, G4 P1_7, G5 P6_1, G6 P3_2, G7 P2_1, G9 P2_6, G10 P2_0, H1 P1_0, H2 TCK/SWDCLK, H3 TDO/SWO, H4 PF_4, H5 P1_8, H6 P1_10, H7 P6_0, H8 P1_13, H9 P1_16, H10 P1_17, J1 P1_3, J2 P1_4, J4 P1_5, J5 P1_9, J7 P1_11, J8 P1_14, J9 P6_2, J10 P1_18, K1 P1_2, K2 P1_1, K3 CLK0, K4 P1_6, K6 CLK2, K7 P1_12, K8 P1_15, K9 P1_19, K10 P1_20

## LPC1830FBD144
designator U?, comment 32-bit ARM Cortex-M3 MCU; up to 200 kB SRAM; Ethernet, two High-speed USB, LCD, and external memory controller The LPC1850/30/20/10 are ARM Cortex-M3 based microcontrollers for embedded applications. The ARM Cortex-M3 is a next generation core that offers system enhancements such as low power consumption, enhanced debug features, and a high level of support block integration. The LPC1850/30/20/10 operate at CPU frequencies of up to 180 MHz. The ARM Cortex-M3 CPU incorporates a 3-stage pipeline and uses a Harvard architecture with separate local instruction and data buses as well as a third bus for peripherals. The ARM Cortex-M3 CPU also includes an internal prefetch unit that supports speculative branching. The LPC1850/30/20/10 include up to 200 kB of on-chip SRAM, a quad SPI Flash Interface (SPIFI), a State Configurable Timer (SCT) subsystem, two High-speed USB controllers, Ethernet, LCD, an external memory controller, and multiple digital and analog peripherals.    AAL Eindhoven MK
ADC: 8; ETHERNET: yes; GPIO: 83; LCD: no; SRAM: 200kB; USB0: Host/OTG; USB1: Host; PWM: yes; QEI: no
footprint SOT486-1
pins: 1 P4_0, 2 ADC0_1/ADC1_1, 3 P4_1, 4 40 76 109 VSSIO, 5 36 41 71 77 107 111 141 VDDIO, 6 ADC0_0/ADC1_0/DAC, 7 P4_3, 8 P4_2, 9 P4_4, 10 P4_5, 11 P4_6, 12 XTAL1, 13 XTAL2, 14 P4_7, 15 P4_8, 16 USB0_VDDA3V3_DRIVER, 17 USB0_VDDA3V3, 18 USB0_DP, 19 USB0_VSSA_TERM, 20 USB0_DM, 21 USB0_VBUS, 22 USB0_ID, 23 USB0_VSSA_REF, 24 USB0_RREF, 25 59 94 131 VDDREG, 26 TDI, 27 TCK/SWDCLK, 28 DBGEN, 29 TRST, 30 TMS/SWDIO, 31 TDO/SWO, 32 P0_0, 33 P4_9, 34 P0_1, 35 P4_10, 37 P5_0, 38 P1_0, 39 P5_1, 42 P1_1, 43 P1_2, 44 P1_3, 45 CLK0, 46 P5_2, 47 P1_4, 48 P1_5, 49 P1_6, 50 P1_7, 51 P1_8, 52 P1_9, 53 P1_10, 54 P5_3, 55 P1_11, 56 P1_12, 57 P5_4, 58 P5_5, 60 P1_13, 61 P1_14, 62 P1_15, 63 P5_6, 64 P1_16, 65 P5_7, 66 P1_17, 67 P1_18, 68 P1_19, 69 P9_5, 70 P1_20, 72 P9_6, 73 P6_0, 74 P6_1, 75 P2_0, 78 P6_2, 79 P6_3, 80 P6_4, 81 P2_1, 82 P6_5, 83 P6_6, 84 P2_2, 85 P6_7, 86 P6_8, 87 P2_3, 88 P2_4, 89 USB1_DP, 90 USB1_DM, 91 P2_5, 92 I2C0_SCL, 93 I2C0_SDA, 95 P2_6, 96 P2_7, 97 P6_9, 98 P2_8, 99 CLK2, 100 P6_10, 101 P6_11, 102 P2_9, 103 P6_12, 104 P2_10, 105 P2_11, 106 P2_12, 108 P2_13, 110 P7_0, 112 P3_0, 113 P7_1, 114 P3_1, 115 P7_2, 116 P3_2, 117 P7_3, 118 P3_3, 119 P3_4, 120 PF_4, 121 P3_5, 122 P3_6, 123 P3_7, 124 P3_8, 125 RTCX1, 126 RTCX2, 127 VBAT, 128 RESET, 129 RTC_ALARM, 130 WAKEUP0, 132 P7_4, 133 P7_5, 134 P7_6, 135 VSSA, 136 ADC0_7/ADC1_7, 137 VDDA, 138 ADC0_4/ADC1_4, 139 ADC0_3/ADC1_3, 140 P7_7, 142 ADC0_6/ADC1_6, 143 ADC0_2/ADC1_2, 144 ADC0_5/ADC1_5

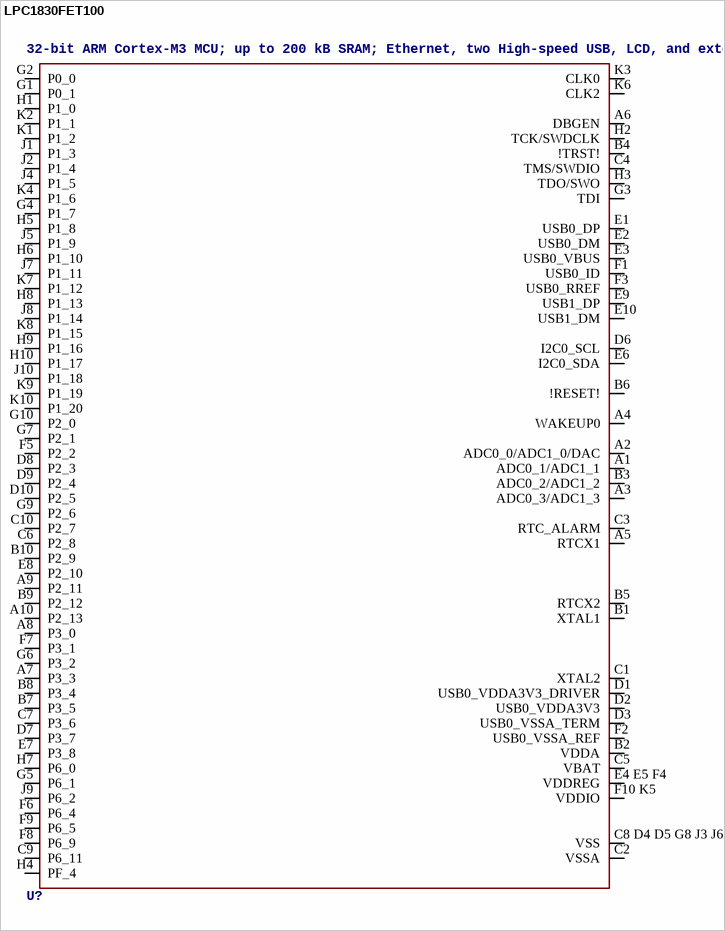
[diagram p96: symbol LPC1830FET100]

## LPC1830FET100
designator U?, comment 32-bit ARM Cortex-M3 MCU; up to 200 kB SRAM; Ethernet, two High-speed USB, LCD, and external memory controller The LPC1850/30/20/10 are ARM Cortex-M3 based microcontrollers for embedded applications. The ARM Cortex-M3 is a next generation core that offers system enhancements such as low power consumption, enhanced debug features, and a high level of support block integration. The LPC1850/30/20/10 operate at CPU frequencies of up to 180 MHz. The ARM Cortex-M3 CPU incorporates a 3-stage pipeline and uses a Harvard architecture with separate local instruction and data buses as well as a third bus for peripherals. The ARM Cortex-M3 CPU also includes an internal prefetch unit that supports speculative branching. The LPC1850/30/20/10 include up to 200 kB of on-chip SRAM, a quad SPI Flash Interface (SPIFI), a State Configurable Timer (SCT) subsystem, two High-speed USB controllers, Ethernet, LCD, an external memory controller, and multiple digital and analog peripherals.    AAL Eindhoven MK
ADC: 4; ETHERNET: yes; GPIO: 49; LCD: no; SRAM: 200kB; USB0: Host/OTG; USB1: Host; PWM: no; QEI: no
footprint SOT926-1
pins: A1 ADC0_1/ADC1_1, A2 ADC0_0/ADC1_0/DAC, A3 ADC0_3/ADC1_3, A4 WAKEUP0, A5 RTCX1, A6 DBGEN, A7 P3_3, A8 P3_0, A9 P2_11, A10 P2_13, B1 XTAL1, B2 VDDA, B3 ADC0_2/ADC1_2, B4 !TRST!, B5 RTCX2, B6 !RESET!, B7 P3_5, B8 P3_4, B9 P2_12, B10 P2_9, C1 XTAL2, C2 VSSA, C3 RTC_ALARM, C4 TMS/SWDIO, C5 VBAT, C6 P2_8, C7 P3_6, C8 D4 D5 G8 J3 J6 VSS, C9 P6_11, C10 P2_7, D1 USB0_VDDA3V3_DRIVER, D2 USB0_VDDA3V3, D3 USB0_VSSA_TERM, D6 I2C0_SCL, D7 P3_7, D8 P2_3, D9 P2_4, D10 P2_5, E1 USB0_DP, E2 USB0_DM, E3 USB0_VBUS, E4 E5 F4 VDDREG, E6 I2C0_SDA, E7 P3_8, E8 P2_10, E9 USB1_DP, E10 USB1_DM, F1 USB0_ID, F2 USB0_VSSA_REF, F3 USB0_RREF, F5 P2_2, F6 P6_4, F7 P3_1, F8 P6_9, F9 P6_5, F10 K5 VDDIO, G1 P0_1, G2 P0_0, G3 TDI, G4 P1_7, G5 P6_1, G6 P3_2, G7 P2_1, G9 P2_6, G10 P2_0, H1 P1_0, H2 TCK/SWDCLK, H3 TDO/SWO, H4 PF_4, H5 P1_8, H6 P1_10, H7 P6_0, H8 P1_13, H9 P1_16, H10 P1_17, J1 P1_3, J2 P1_4, J4 P1_5, J5 P1_9, J7 P1_11, J8 P1_14, J9 P6_2, J10 P1_18, K1 P1_2, K2 P1_1, K3 CLK0, K4 P1_6, K6 CLK2, K7 P1_12, K8 P1_15, K9 P1_19, K10 P1_20

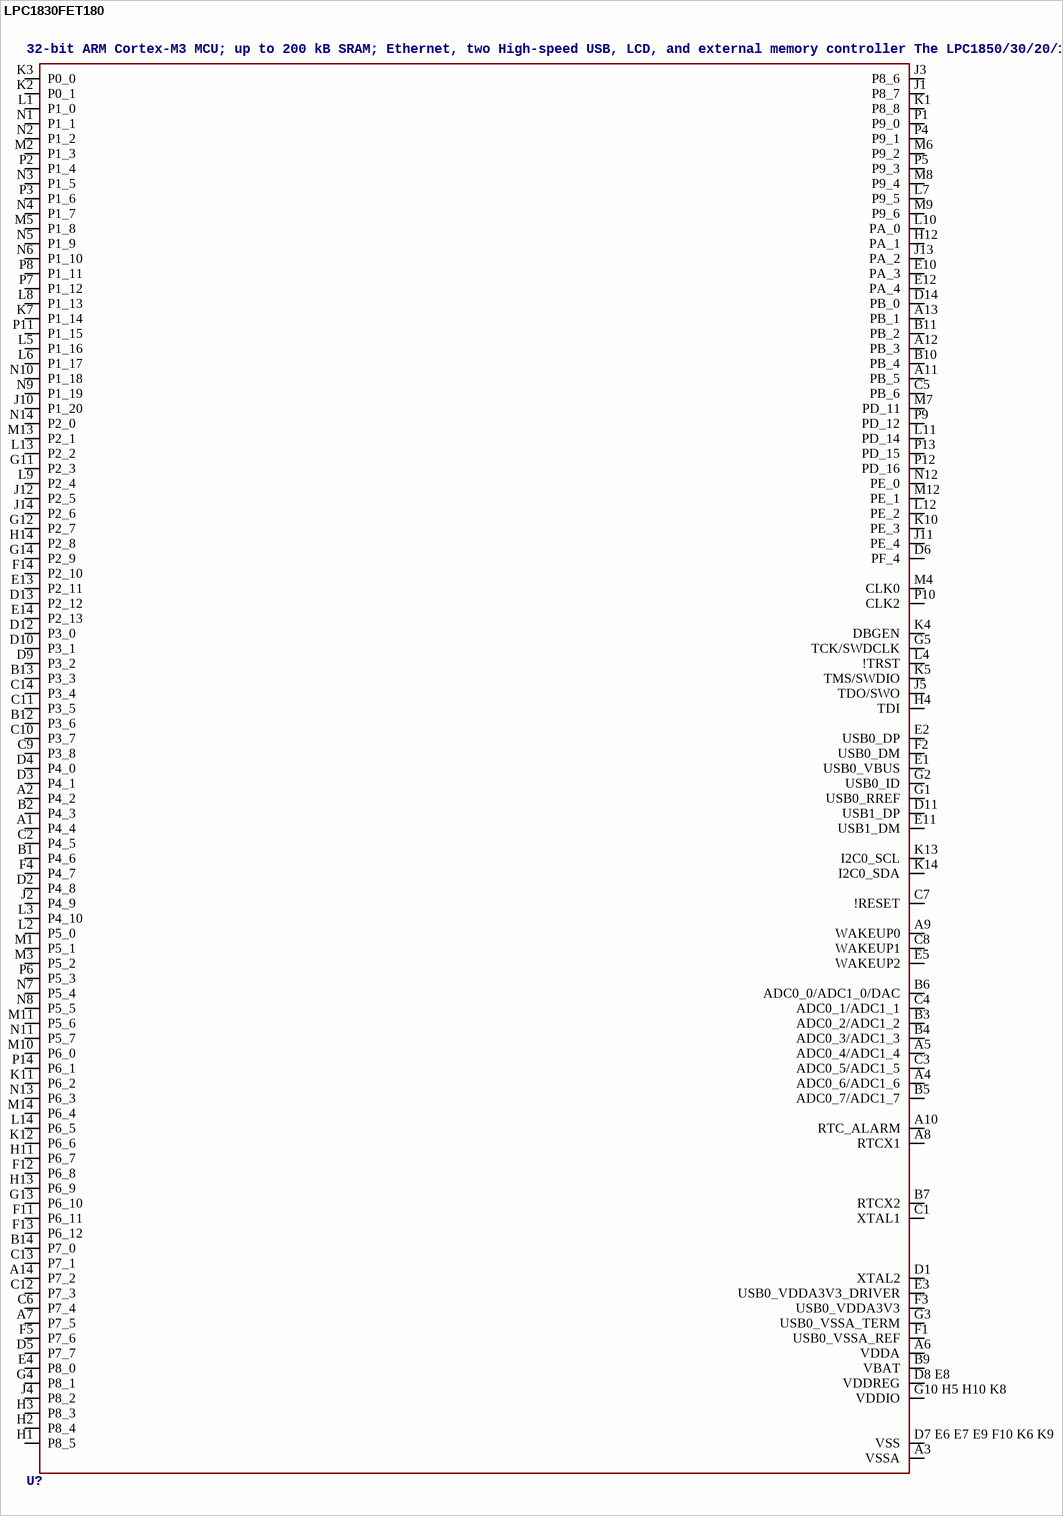
[diagram p97: symbol LPC1830FET180]

## LPC1830FET180
designator U?, comment 32-bit ARM Cortex-M3 MCU; up to 200 kB SRAM; Ethernet, two High-speed USB, LCD, and external memory controller The LPC1850/30/20/10 are ARM Cortex-M3 based microcontrollers for embedded applications. The ARM Cortex-M3 is a next generation core that offers system enhancements such as low power consumption, enhanced debug features, and a high level of support block integration. The LPC1850/30/20/10 operate at CPU frequencies of up to 180 MHz. The ARM Cortex-M3 CPU incorporates a 3-stage pipeline and uses a Harvard architecture with separate local instruction and data buses as well as a third bus for peripherals. The ARM Cortex-M3 CPU also includes an internal prefetch unit that supports speculative branching. The LPC1850/30/20/10 include up to 200 kB of on-chip SRAM, a quad SPI Flash Interface (SPIFI), a State Configurable Timer (SCT) subsystem, two High-speed USB controllers, Ethernet, LCD, an external memory controller, and multiple digital and analog peripherals.    AAL Eindhoven MK
ADC: 8; ETHERNET: yes; GPIO: 118; LCD: no; SRAM: 2000kB; USB0: Host/OTG; USB1: Host/ULPI; PWM: yes; QEI: yes
footprint SOT570-2
pins: A1 P4_4, A2 P4_2, A3 VSSA, A4 ADC0_6/ADC1_6, A5 ADC0_4/ADC1_4, A6 VDDA, A7 P7_5, A8 RTCX1, A9 WAKEUP0, A10 RTC_ALARM, A11 PB_5, A12 PB_3, A13 PB_1, A14 P7_2, B1 P4_6, B2 P4_3, B3 ADC0_2/ADC1_2, B4 ADC0_3/ADC1_3, B5 ADC0_7/ADC1_7, B6 ADC0_0/ADC1_0/DAC, B7 RTCX2, B9 VBAT, B10 PB_4, B11 PB_2, B12 P3_6, B13 P3_3, B14 P7_0, C1 XTAL1, C2 P4_5, C3 ADC0_5/ADC1_5, C4 ADC0_1/ADC1_1, C5 PB_6, C6 P7_4, C7 !RESET, C8 WAKEUP1, C9 P3_8, C10 P3_7, C11 P3_5, C12 P7_3, C13 P7_1, C14 P3_4, D1 XTAL2, D2 P4_8, D3 P4_1, D4 P4_0, D5 P7_7, D6 PF_4, D7 E6 E7 E9 F10 K6 K9 VSS, D8 E8 VDDREG, D9 P3_2, D10 P3_1, D11 USB1_DP, D12 P3_0, D13 P2_12, D14 PB_0, E1 USB0_VBUS, E2 USB0_DP, E3 USB0_VDDA3V3_DRIVER, E4 P8_0, E5 WAKEUP2, E10 PA_3, E11 USB1_DM, E12 PA_4, E13 P2_11, E14 P2_13, F1 USB0_VSSA_REF, F2 USB0_DM, F3 USB0_VDDA3V3, F4 P4_7, F5 P7_6, F11 P6_11, F12 P6_8, F13 P6_12, F14 P2_10, G1 USB0_RREF, G2 USB0_ID, G3 USB0_VSSA_TERM, G4 P8_1, G5 TCK/SWDCLK, G10 H5 H10 K8 VDDIO, G11 P2_3, G12 P2_7, G13 P6_10, G14 P2_9, H1 P8_5, H2 P8_4, H3 P8_3, H4 TDI, H11 P6_7, H12 PA_1, H13 P6_9, H14 P2_8, J1 P8_7, J2 P4_9, J3 P8_6, J4 P8_2, J5 TDO/SWO, J10 P1_20, J11 PE_4, J12 P2_5, J13 PA_2, J14 P2_6, K1 P8_8, K2 P0_1, K3 P0_0, K4 DBGEN, K5 TMS/SWDIO, K7 P1_14, K10 PE_3, K11 P6_2, K12 P6_6, K13 I2C0_SCL, K14 I2C0_SDA, L1 P1_0, L2 P5_0, L3 P4_10, L4 !TRST, L5 P1_16, L6 P1_17, L7 P9_5, L8 P1_13, L9 P2_4, L10 PA_0, L11 PD_14, L12 PE_2, L13 P2_2, L14 P6_5, M1 P5_1, M2 P1_3, M3 P5_2, M4 CLK0, M5 P1_8, M6 P9_2, M7 PD_11, M8 P9_4, M9 P9_6, M10 P6_0, M11 P5_6, M12 PE_1, M13 P2_1, M14 P6_4, N1 P1_1, N2 P1_2, N3 P1_5, N4 P1_7, N5 P1_9, N6 P1_10, N7 P5_4, N8 P5_5, N9 P1_19, N10 P1_18, N11 P5_7, N12 PE_0, N13 P6_3, N14 P2_0, P1 P9_0, P2 P1_4, P3 P1_6, P4 P9_1, P5 P9_3, P6 P5_3, P7 P1_12, P8 P1_11, P9 PD_12, P10 CLK2, P11 P1_15, P12 PD_16, P13 PD_15, P14 P6_1

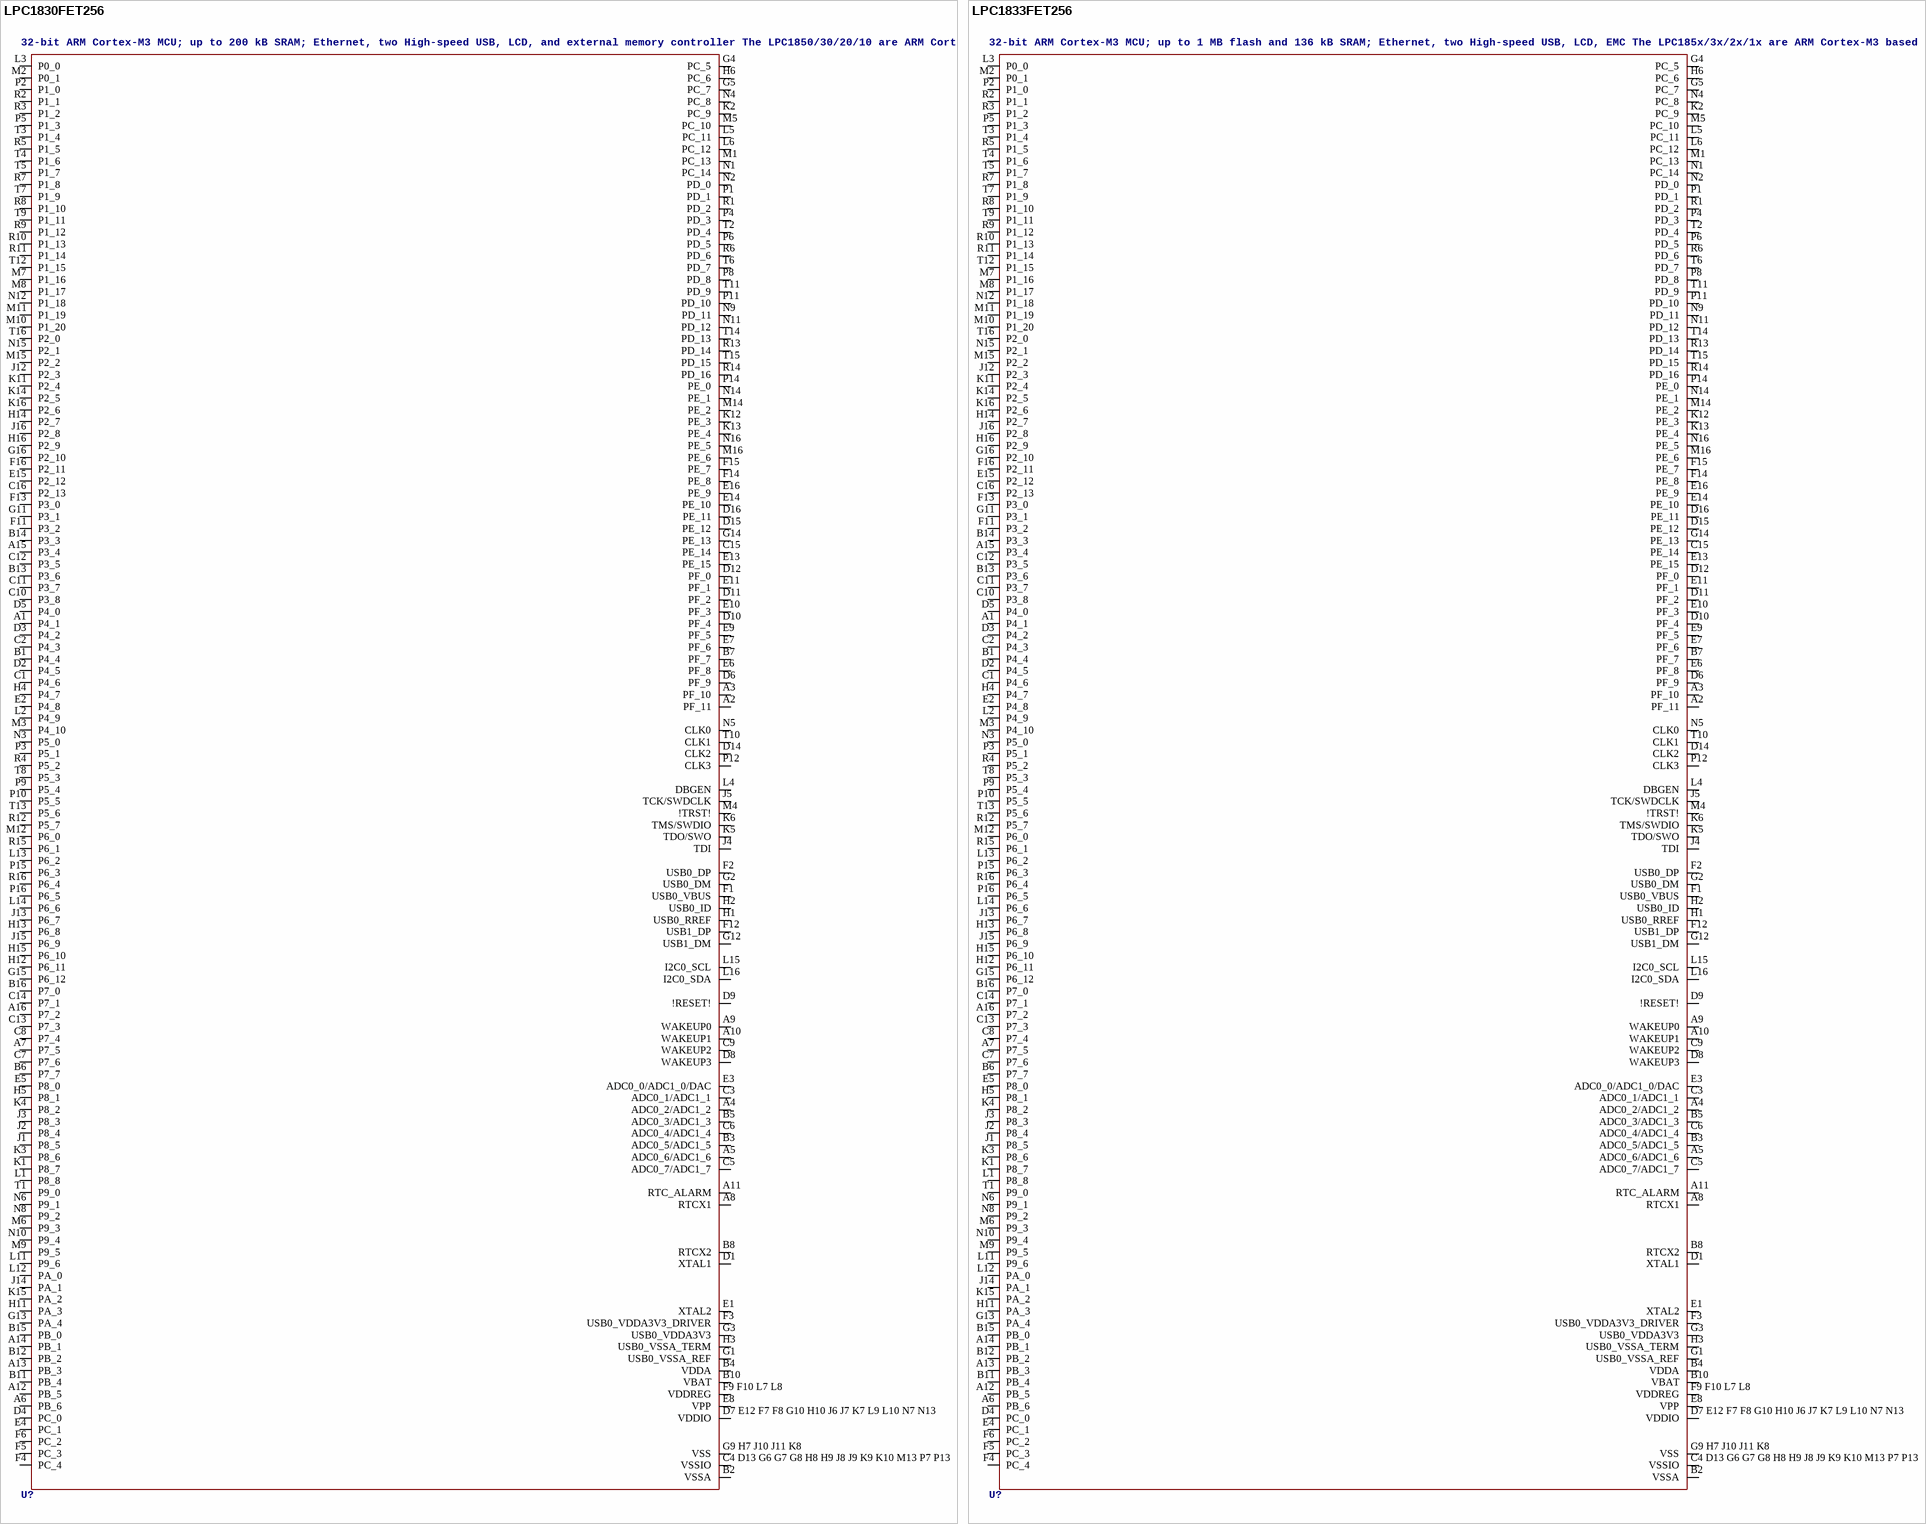
[diagram p98: symbols LPC1830FET256 to LPC1833FET256]

## LPC1830FET256
designator U?, comment 32-bit ARM Cortex-M3 MCU; up to 200 kB SRAM; Ethernet, two High-speed USB, LCD, and external memory controller The LPC1850/30/20/10 are ARM Cortex-M3 based microcontrollers for embedded applications. The ARM Cortex-M3 is a next generation core that offers system enhancements such as low power consumption, enhanced debug features, and a high level of support block integration. The LPC1850/30/20/10 operate at CPU frequencies of up to 180 MHz. The ARM Cortex-M3 CPU incorporates a 3-stage pipeline and uses a Harvard architecture with separate local instruction and data buses as well as a third bus for peripherals. The ARM Cortex-M3 CPU also includes an internal prefetch unit that supports speculative branching. The LPC1850/30/20/10 include up to 200 kB of on-chip SRAM, a quad SPI Flash Interface (SPIFI), a State Configurable Timer (SCT) subsystem, two High-speed USB controllers, Ethernet, LCD, an external memory controller, and multiple digital and analog peripherals.    AAL Eindhoven MK
ADC: 8; ETHERNET: yes; GPIO: 164; LCD: no; SRAM: 200kB; USB0: Host/OTG; USB1: Host/ULPI; PWM: yes; QEI: yes
footprint SOT740-2
pins: A1 P4_1, A2 PF_11, A3 PF_10, A4 ADC0_2/ADC1_2, A5 ADC0_6/ADC1_6, A6 PB_6, A7 P7_5, A8 RTCX1, A9 WAKEUP0, A10 WAKEUP1, A11 RTC_ALARM, A12 PB_5, A13 PB_3, A14 PB_1, A15 P3_4, A16 P7_2, B1 P4_4, B2 VSSA, B3 ADC0_5/ADC1_5, B4 VDDA, B5 ADC0_3/ADC1_3, B6 P7_7, B7 PF_7, B8 RTCX2, B10 VBAT, B11 PB_4, B12 PB_2, B13 P3_6, B14 P3_3, B15 PB_0, B16 P7_0, C1 P4_6, C2 P4_3, C3 ADC0_1/ADC1_1, C4 D13 G6 G7 G8 H8 H9 J8 J9 K9 K10 M13 P7 P13 VSSIO, C5 ADC0_7/ADC1_7, C6 ADC0_4/ADC1_4, C7 P7_6, C8 P7_4, C9 WAKEUP2, C10 P3_8, C11 P3_7, C12 P3_5, C13 P7_3, C14 P7_1, C15 PE_14, C16 P2_13, D1 XTAL1, D2 P4_5, D3 P4_2, D4 PC_0, D5 P4_0, D6 PF_9, D7 E12 F7 F8 G10 H10 J6 J7 K7 L9 L10 N7 N13 VDDIO, D8 WAKEUP3, D9 !RESET!, D10 PF_4, D11 PF_2, D12 PF_0, D14 CLK2, D15 PE_12, D16 PE_11, E1 XTAL2, E2 P4_8, E3 ADC0_0/ADC1_0/DAC, E4 PC_1, E5 P8_0, E6 PF_8, E7 PF_6, E8 VPP, E9 PF_5, E10 PF_3, E11 PF_1, E13 PE_15, E14 PE_10, E15 P2_12, E16 PE_9, F1 USB0_VBUS, F2 USB0_DP, F3 USB0_VDDA3V3_DRIVER, F4 PC_4, F5 PC_3, F6 PC_2, F9 F10 L7 L8 VDDREG, F11 P3_2, F12 USB1_DP, F13 P3_0, F14 PE_8, F15 PE_7, F16 P2_11, G1 USB0_VSSA_REF, G2 USB0_DM, G3 USB0_VDDA3V3, G4 PC_5, G5 PC_7, G9 H7 J10 J11 K8 VSS, G11 P3_1, G12 USB1_DM, G13 PA_4, G14 PE_13, G15 P6_12, G16 P2_10, H1 USB0_RREF, H2 USB0_ID, H3 USB0_VSSA_TERM, H4 P4_7, H5 P8_1, H6 PC_6, H11 PA_3, H12 P6_11, H13 P6_8, H14 P2_7, H15 P6_10, H16 P2_9, J1 P8_5, J2 P8_4, J3 P8_3, J4 TDI, J5 TCK/SWDCLK, J12 P2_3, J13 P6_7, J14 PA_1, J15 P6_9, J16 P2_8, K1 P8_7, K2 PC_9, K3 P8_6, K4 P8_2, K5 TDO/SWO, K6 TMS/SWDIO, K11 P2_4, K12 PE_3, K13 PE_4, K14 P2_5, K15 PA_2, K16 P2_6, L1 P8_8, L2 P4_9, L3 P0_0, L4 DBGEN, L5 PC_11, L6 PC_12, L11 P9_6, L12 PA_0, L13 P6_2, L14 P6_6, L15 I2C0_SCL, L16 I2C0_SDA, M1 PC_13, M2 P0_1, M3 P4_10, M4 !TRST!, M5 PC_10, M6 P9_3, M7 P1_16, M8 P1_17, M9 P9_5, M10 P1_20, M11 P1_19, M12 P6_0, M14 PE_2, M15 P2_2, M16 PE_6, N1 PC_14, N2 PD_0, N3 P5_0, N4 PC_8, N5 CLK0, N6 P9_1, N8 P9_2, N9 PD_11, N10 P9_4, N11 PD_12, N12 P1_18, N14 PE_1, N15 P2_1, N16 PE_5, P1 PD_1, P2 P1_0, P3 P5_1, P4 PD_3, P5 P1_3, P6 PD_5, P8 PD_8, P9 P5_4, P10 P5_5, P11 PD_10, P12 CLK3, P14 PE_0, P15 P6_3, P16 P6_5, R1 PD_2, R2 P1_1, R3 P1_2, R4 P5_2, R5 P1_5, R6 PD_6, R7 P1_8, R8 P1_10, R9 P1_12, R10 P1_13, R11 P1_14, R12 P5_7, R13 PD_14, R14 PD_16, R15 P6_1, R16 P6_4, T1 P9_0, T2 PD_4, T3 P1_4, T4 P1_6, T5 P1_7, T6 PD_7, T7 P1_9, T8 P5_3, T9 P1_11, T10 CLK1, T11 PD_9, T12 P1_15, T13 P5_6, T14 PD_13, T15 PD_15, T16 P2_0

## LPC1833FET256
designator U?, comment 32-bit ARM Cortex-M3 MCU; up to 1 MB flash and 136 kB SRAM; Ethernet, two High-speed USB, LCD, EMC The LPC185x/3x/2x/1x are ARM Cortex-M3 based microcontrollers for embedded applications. The ARM Cortex-M3 is a next generation core that offers system enhancements such as low power consumption, enhanced debug features, and a high level of support block integration. The LPC185x/3x/2x/1x operate at CPU frequencies of up to 180 MHz. The ARM Cortex-M3 CPU incorporates a 3-stage pipeline and uses a Harvard architecture with separate local instruction and data buses as well as a third bus for peripherals. The ARM Cortex-M3 CPU also includes an internal prefetch unit that supports speculative branching. The LPC185x/3x/2x/1x include up to 1 MB of flash and 136 kB of on-chip SRAM, 16 kB of EEPROM memory, a quad SPI Flash Interface (SPIFI), a State Configurable Timer (SCT) subsystem, two High-speed USB controllers, Ethernet, LCD, an external memory controller, and multiple digital and analog peripherals.    AAL Eindhoven MK
ADC: 8; ETHERNET: yes; FLASH: 512kB; GPIO: 164; LCD: no; SRAM: 136kB; TEMPERATURE_RANGE: -40 °C to +85 °C; USB0: Host/OTG; USB1: Host/ULPI; PWM: yes; QEI: yes
footprint SOT740-2
pins: A1 P4_1, A2 PF_11, A3 PF_10, A4 ADC0_2/ADC1_2, A5 ADC0_6/ADC1_6, A6 PB_6, A7 P7_5, A8 RTCX1, A9 WAKEUP0, A10 WAKEUP1, A11 RTC_ALARM, A12 PB_5, A13 PB_3, A14 PB_1, A15 P3_4, A16 P7_2, B1 P4_4, B2 VSSA, B3 ADC0_5/ADC1_5, B4 VDDA, B5 ADC0_3/ADC1_3, B6 P7_7, B7 PF_7, B8 RTCX2, B10 VBAT, B11 PB_4, B12 PB_2, B13 P3_6, B14 P3_3, B15 PB_0, B16 P7_0, C1 P4_6, C2 P4_3, C3 ADC0_1/ADC1_1, C4 D13 G6 G7 G8 H8 H9 J8 J9 K9 K10 M13 P7 P13 VSSIO, C5 ADC0_7/ADC1_7, C6 ADC0_4/ADC1_4, C7 P7_6, C8 P7_4, C9 WAKEUP2, C10 P3_8, C11 P3_7, C12 P3_5, C13 P7_3, C14 P7_1, C15 PE_14, C16 P2_13, D1 XTAL1, D2 P4_5, D3 P4_2, D4 PC_0, D5 P4_0, D6 PF_9, D7 E12 F7 F8 G10 H10 J6 J7 K7 L9 L10 N7 N13 VDDIO, D8 WAKEUP3, D9 !RESET!, D10 PF_4, D11 PF_2, D12 PF_0, D14 CLK2, D15 PE_12, D16 PE_11, E1 XTAL2, E2 P4_8, E3 ADC0_0/ADC1_0/DAC, E4 PC_1, E5 P8_0, E6 PF_8, E7 PF_6, E8 VPP, E9 PF_5, E10 PF_3, E11 PF_1, E13 PE_15, E14 PE_10, E15 P2_12, E16 PE_9, F1 USB0_VBUS, F2 USB0_DP, F3 USB0_VDDA3V3_DRIVER, F4 PC_4, F5 PC_3, F6 PC_2, F9 F10 L7 L8 VDDREG, F11 P3_2, F12 USB1_DP, F13 P3_0, F14 PE_8, F15 PE_7, F16 P2_11, G1 USB0_VSSA_REF, G2 USB0_DM, G3 USB0_VDDA3V3, G4 PC_5, G5 PC_7, G9 H7 J10 J11 K8 VSS, G11 P3_1, G12 USB1_DM, G13 PA_4, G14 PE_13, G15 P6_12, G16 P2_10, H1 USB0_RREF, H2 USB0_ID, H3 USB0_VSSA_TERM, H4 P4_7, H5 P8_1, H6 PC_6, H11 PA_3, H12 P6_11, H13 P6_8, H14 P2_7, H15 P6_10, H16 P2_9, J1 P8_5, J2 P8_4, J3 P8_3, J4 TDI, J5 TCK/SWDCLK, J12 P2_3, J13 P6_7, J14 PA_1, J15 P6_9, J16 P2_8, K1 P8_7, K2 PC_9, K3 P8_6, K4 P8_2, K5 TDO/SWO, K6 TMS/SWDIO, K11 P2_4, K12 PE_3, K13 PE_4, K14 P2_5, K15 PA_2, K16 P2_6, L1 P8_8, L2 P4_9, L3 P0_0, L4 DBGEN, L5 PC_11, L6 PC_12, L11 P9_6, L12 PA_0, L13 P6_2, L14 P6_6, L15 I2C0_SCL, L16 I2C0_SDA, M1 PC_13, M2 P0_1, M3 P4_10, M4 !TRST!, M5 PC_10, M6 P9_3, M7 P1_16, M8 P1_17, M9 P9_5, M10 P1_20, M11 P1_19, M12 P6_0, M14 PE_2, M15 P2_2, M16 PE_6, N1 PC_14, N2 PD_0, N3 P5_0, N4 PC_8, N5 CLK0, N6 P9_1, N8 P9_2, N9 PD_11, N10 P9_4, N11 PD_12, N12 P1_18, N14 PE_1, N15 P2_1, N16 PE_5, P1 PD_1, P2 P1_0, P3 P5_1, P4 PD_3, P5 P1_3, P6 PD_5, P8 PD_8, P9 P5_4, P10 P5_5, P11 PD_10, P12 CLK3, P14 PE_0, P15 P6_3, P16 P6_5, R1 PD_2, R2 P1_1, R3 P1_2, R4 P5_2, R5 P1_5, R6 PD_6, R7 P1_8, R8 P1_10, R9 P1_12, R10 P1_13, R11 P1_14, R12 P5_7, R13 PD_14, R14 PD_16, R15 P6_1, R16 P6_4, T1 P9_0, T2 PD_4, T3 P1_4, T4 P1_6, T5 P1_7, T6 PD_7, T7 P1_9, T8 P5_3, T9 P1_11, T10 CLK1, T11 PD_9, T12 P1_15, T13 P5_6, T14 PD_13, T15 PD_15, T16 P2_0

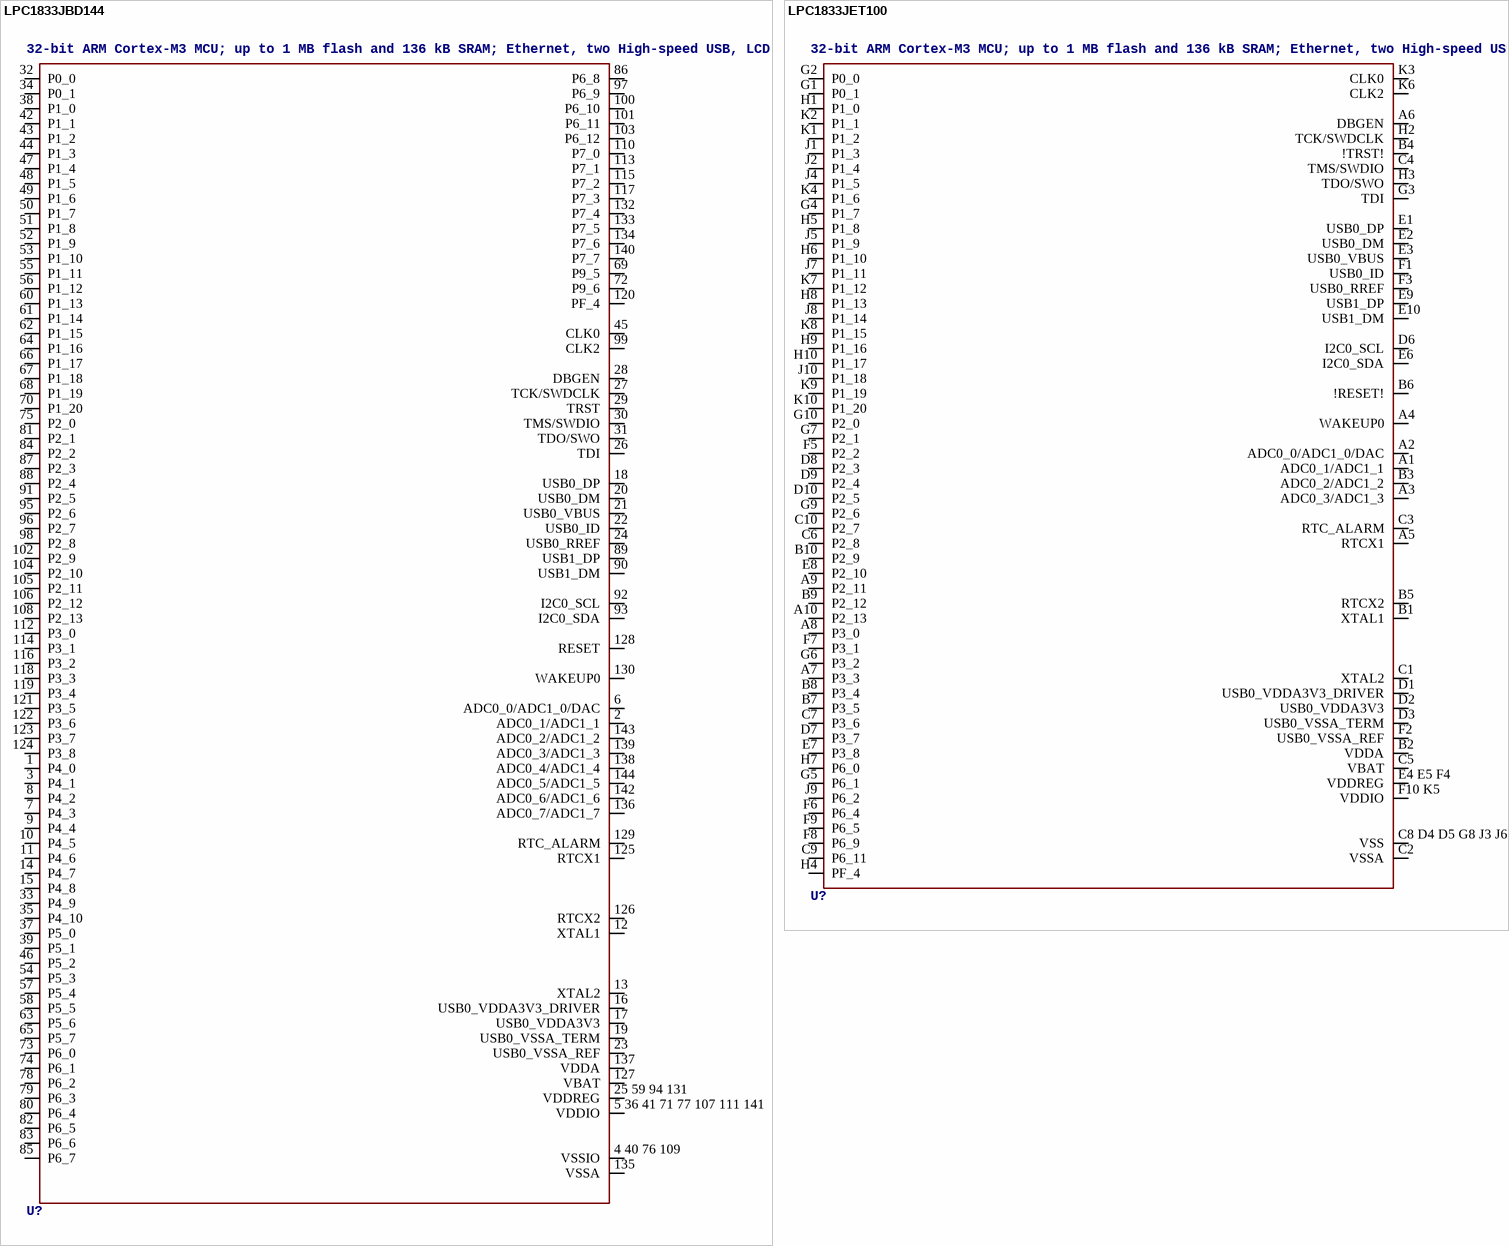
[diagram p99: symbols LPC1833JBD144 to LPC1833JET100]

## LPC1833JBD144
designator U?, comment 32-bit ARM Cortex-M3 MCU; up to 1 MB flash and 136 kB SRAM; Ethernet, two High-speed USB, LCD, EMC The LPC185x/3x/2x/1x are ARM Cortex-M3 based microcontrollers for embedded applications. The ARM Cortex-M3 is a next generation core that offers system enhancements such as low power consumption, enhanced debug features, and a high level of support block integration. The LPC185x/3x/2x/1x operate at CPU frequencies of up to 180 MHz. The ARM Cortex-M3 CPU incorporates a 3-stage pipeline and uses a Harvard architecture with separate local instruction and data buses as well as a third bus for peripherals. The ARM Cortex-M3 CPU also includes an internal prefetch unit that supports speculative branching. The LPC185x/3x/2x/1x include up to 1 MB of flash and 136 kB of on-chip SRAM, 16 kB of EEPROM memory, a quad SPI Flash Interface (SPIFI), a State Configurable Timer (SCT) subsystem, two High-speed USB controllers, Ethernet, LCD, an external memory controller, and multiple digital and analog peripherals.    AAL Eindhoven MK
ADC: 8; ETHERNET: yes; FLASH: 512kB; GPIO: 83; LCD: no; SRAM: 136kB; TEMPERATURE_RANGE: -40 °C to +105 °C; USB0: Host/OTG; USB1: Host/ULPI; PWM: yes; QEI: no
footprint SOT486-1
pins: 1 P4_0, 2 ADC0_1/ADC1_1, 3 P4_1, 4 40 76 109 VSSIO, 5 36 41 71 77 107 111 141 VDDIO, 6 ADC0_0/ADC1_0/DAC, 7 P4_3, 8 P4_2, 9 P4_4, 10 P4_5, 11 P4_6, 12 XTAL1, 13 XTAL2, 14 P4_7, 15 P4_8, 16 USB0_VDDA3V3_DRIVER, 17 USB0_VDDA3V3, 18 USB0_DP, 19 USB0_VSSA_TERM, 20 USB0_DM, 21 USB0_VBUS, 22 USB0_ID, 23 USB0_VSSA_REF, 24 USB0_RREF, 25 59 94 131 VDDREG, 26 TDI, 27 TCK/SWDCLK, 28 DBGEN, 29 TRST, 30 TMS/SWDIO, 31 TDO/SWO, 32 P0_0, 33 P4_9, 34 P0_1, 35 P4_10, 37 P5_0, 38 P1_0, 39 P5_1, 42 P1_1, 43 P1_2, 44 P1_3, 45 CLK0, 46 P5_2, 47 P1_4, 48 P1_5, 49 P1_6, 50 P1_7, 51 P1_8, 52 P1_9, 53 P1_10, 54 P5_3, 55 P1_11, 56 P1_12, 57 P5_4, 58 P5_5, 60 P1_13, 61 P1_14, 62 P1_15, 63 P5_6, 64 P1_16, 65 P5_7, 66 P1_17, 67 P1_18, 68 P1_19, 69 P9_5, 70 P1_20, 72 P9_6, 73 P6_0, 74 P6_1, 75 P2_0, 78 P6_2, 79 P6_3, 80 P6_4, 81 P2_1, 82 P6_5, 83 P6_6, 84 P2_2, 85 P6_7, 86 P6_8, 87 P2_3, 88 P2_4, 89 USB1_DP, 90 USB1_DM, 91 P2_5, 92 I2C0_SCL, 93 I2C0_SDA, 95 P2_6, 96 P2_7, 97 P6_9, 98 P2_8, 99 CLK2, 100 P6_10, 101 P6_11, 102 P2_9, 103 P6_12, 104 P2_10, 105 P2_11, 106 P2_12, 108 P2_13, 110 P7_0, 112 P3_0, 113 P7_1, 114 P3_1, 115 P7_2, 116 P3_2, 117 P7_3, 118 P3_3, 119 P3_4, 120 PF_4, 121 P3_5, 122 P3_6, 123 P3_7, 124 P3_8, 125 RTCX1, 126 RTCX2, 127 VBAT, 128 RESET, 129 RTC_ALARM, 130 WAKEUP0, 132 P7_4, 133 P7_5, 134 P7_6, 135 VSSA, 136 ADC0_7/ADC1_7, 137 VDDA, 138 ADC0_4/ADC1_4, 139 ADC0_3/ADC1_3, 140 P7_7, 142 ADC0_6/ADC1_6, 143 ADC0_2/ADC1_2, 144 ADC0_5/ADC1_5

## LPC1833JET100
designator U?, comment 32-bit ARM Cortex-M3 MCU; up to 1 MB flash and 136 kB SRAM; Ethernet, two High-speed USB, LCD, EMC The LPC185x/3x/2x/1x are ARM Cortex-M3 based microcontrollers for embedded applications. The ARM Cortex-M3 is a next generation core that offers system enhancements such as low power consumption, enhanced debug features, and a high level of support block integration. The LPC185x/3x/2x/1x operate at CPU frequencies of up to 180 MHz. The ARM Cortex-M3 CPU incorporates a 3-stage pipeline and uses a Harvard architecture with separate local instruction and data buses as well as a third bus for peripherals. The ARM Cortex-M3 CPU also includes an internal prefetch unit that supports speculative branching. The LPC185x/3x/2x/1x include up to 1 MB of flash and 136 kB of on-chip SRAM, 16 kB of EEPROM memory, a quad SPI Flash Interface (SPIFI), a State Configurable Timer (SCT) subsystem, two High-speed USB controllers, Ethernet, LCD, an external memory controller, and multiple digital and analog peripherals.    AAL Eindhoven MK
ADC: 4; ETHERNET: yes; FLASH: 512kB; GPIO: 49; LCD: no; SRAM: 136kB; TEMPERATURE_RANGE: -40 °C to +105 °C; USB0: Host/OTG; USB1: Host/ULPI; PWM: no; QEI: no
footprint SOT926-1
pins: A1 ADC0_1/ADC1_1, A2 ADC0_0/ADC1_0/DAC, A3 ADC0_3/ADC1_3, A4 WAKEUP0, A5 RTCX1, A6 DBGEN, A7 P3_3, A8 P3_0, A9 P2_11, A10 P2_13, B1 XTAL1, B2 VDDA, B3 ADC0_2/ADC1_2, B4 !TRST!, B5 RTCX2, B6 !RESET!, B7 P3_5, B8 P3_4, B9 P2_12, B10 P2_9, C1 XTAL2, C2 VSSA, C3 RTC_ALARM, C4 TMS/SWDIO, C5 VBAT, C6 P2_8, C7 P3_6, C8 D4 D5 G8 J3 J6 VSS, C9 P6_11, C10 P2_7, D1 USB0_VDDA3V3_DRIVER, D2 USB0_VDDA3V3, D3 USB0_VSSA_TERM, D6 I2C0_SCL, D7 P3_7, D8 P2_3, D9 P2_4, D10 P2_5, E1 USB0_DP, E2 USB0_DM, E3 USB0_VBUS, E4 E5 F4 VDDREG, E6 I2C0_SDA, E7 P3_8, E8 P2_10, E9 USB1_DP, E10 USB1_DM, F1 USB0_ID, F2 USB0_VSSA_REF, F3 USB0_RREF, F5 P2_2, F6 P6_4, F7 P3_1, F8 P6_9, F9 P6_5, F10 K5 VDDIO, G1 P0_1, G2 P0_0, G3 TDI, G4 P1_7, G5 P6_1, G6 P3_2, G7 P2_1, G9 P2_6, G10 P2_0, H1 P1_0, H2 TCK/SWDCLK, H3 TDO/SWO, H4 PF_4, H5 P1_8, H6 P1_10, H7 P6_0, H8 P1_13, H9 P1_16, H10 P1_17, J1 P1_3, J2 P1_4, J4 P1_5, J5 P1_9, J7 P1_11, J8 P1_14, J9 P6_2, J10 P1_18, K1 P1_2, K2 P1_1, K3 CLK0, K4 P1_6, K6 CLK2, K7 P1_12, K8 P1_15, K9 P1_19, K10 P1_20

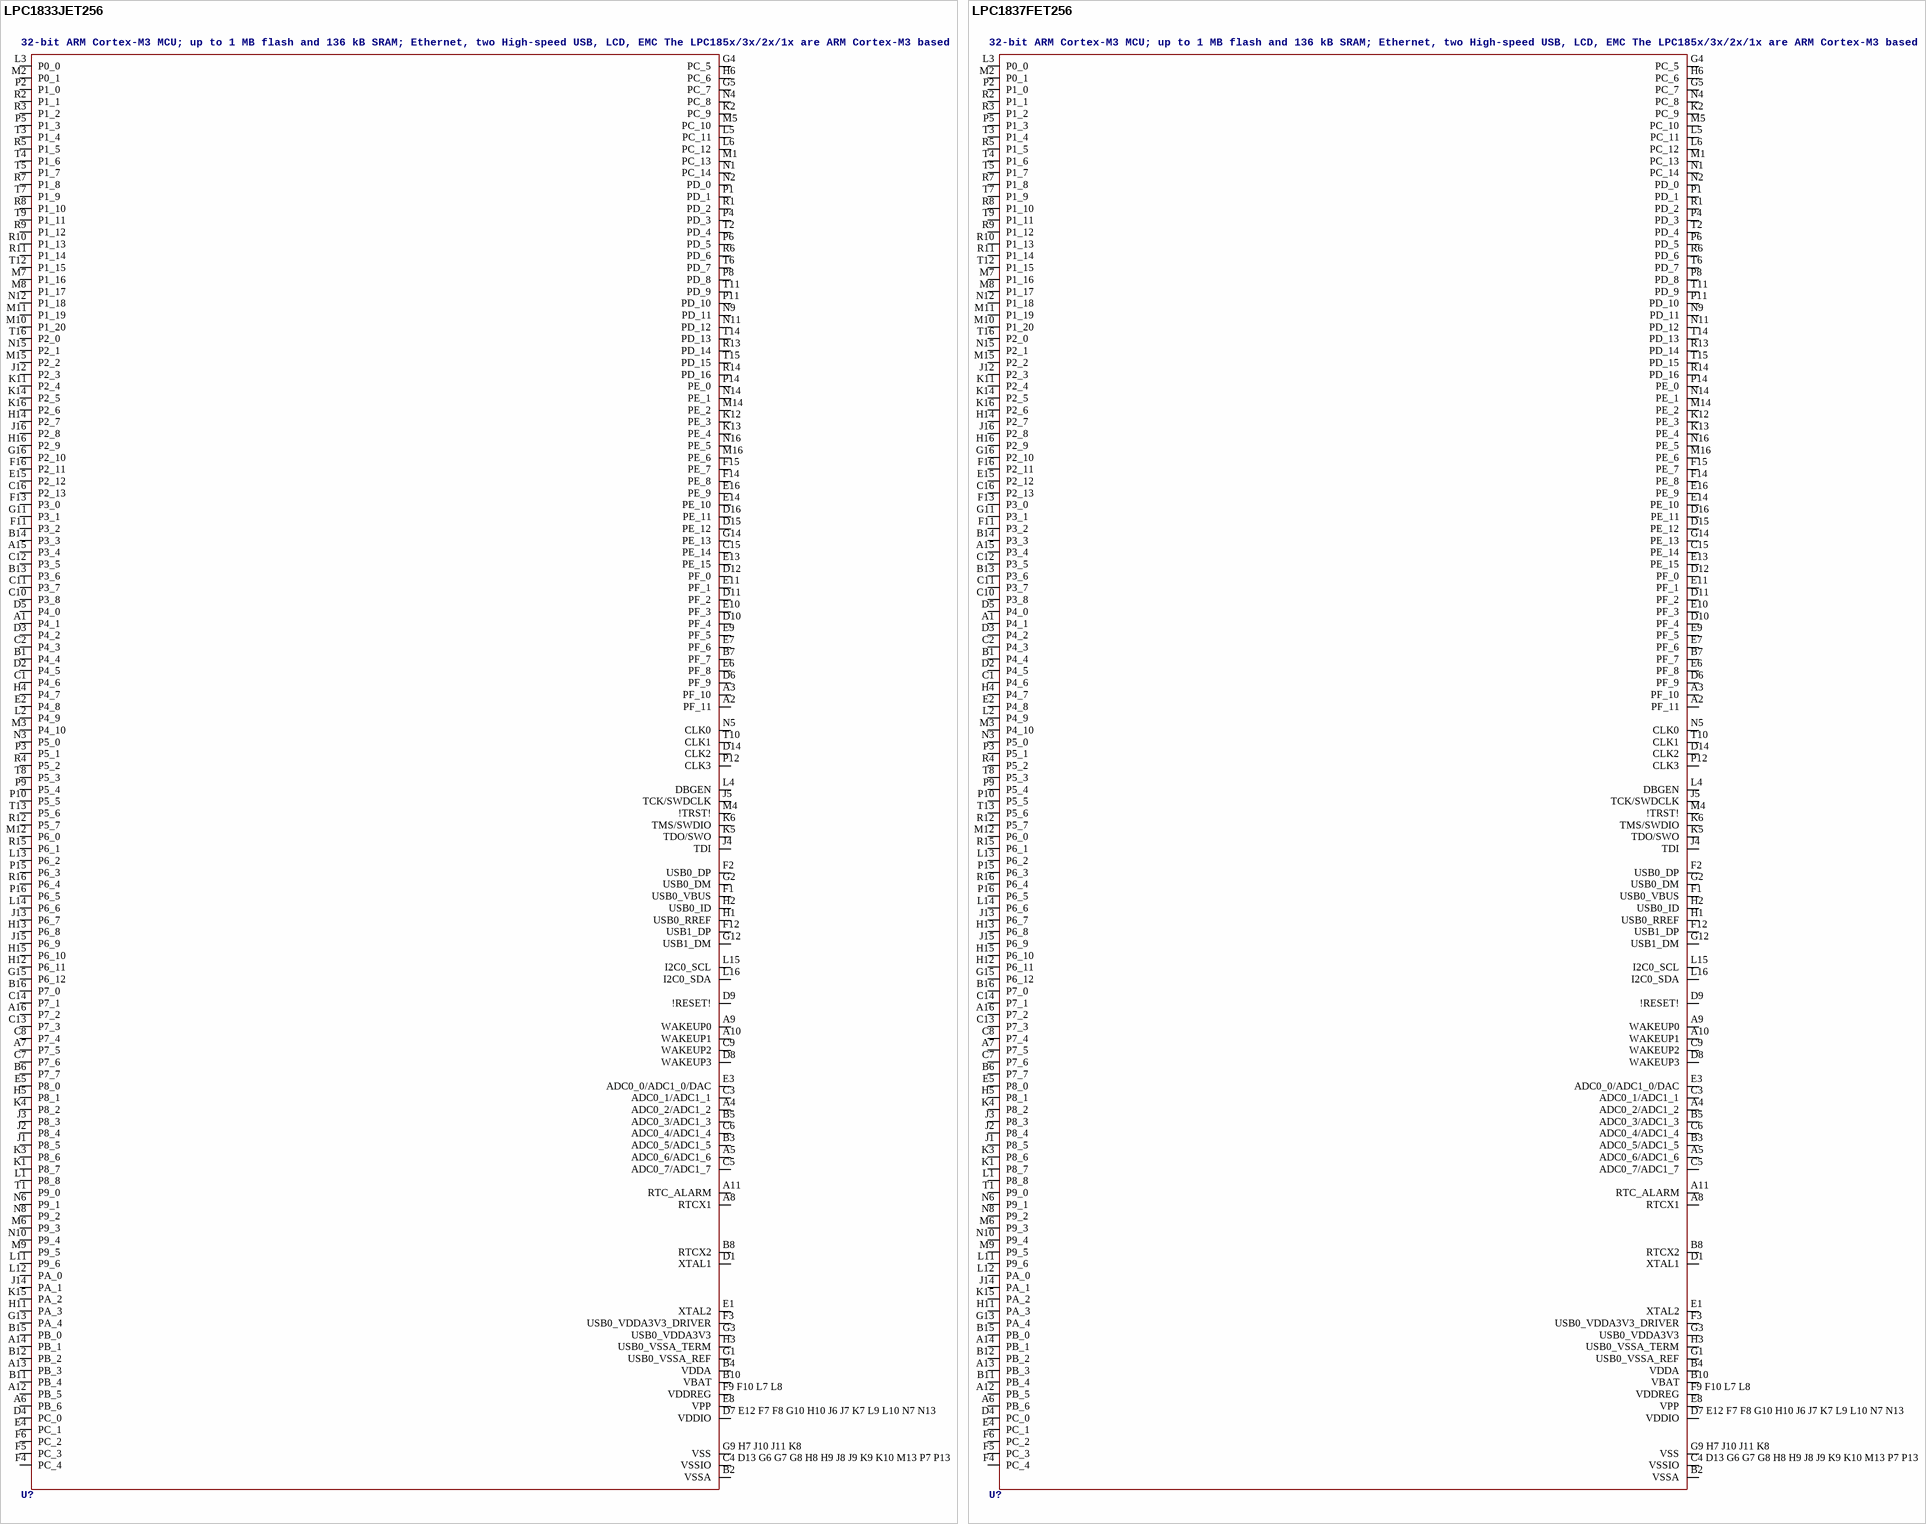
[diagram p100: symbols LPC1833JET256 to LPC1837FET256]